# Altium integrated library Molex Modular Jack Right Angle.IntLib: 395 symbols (part 6 of 9)
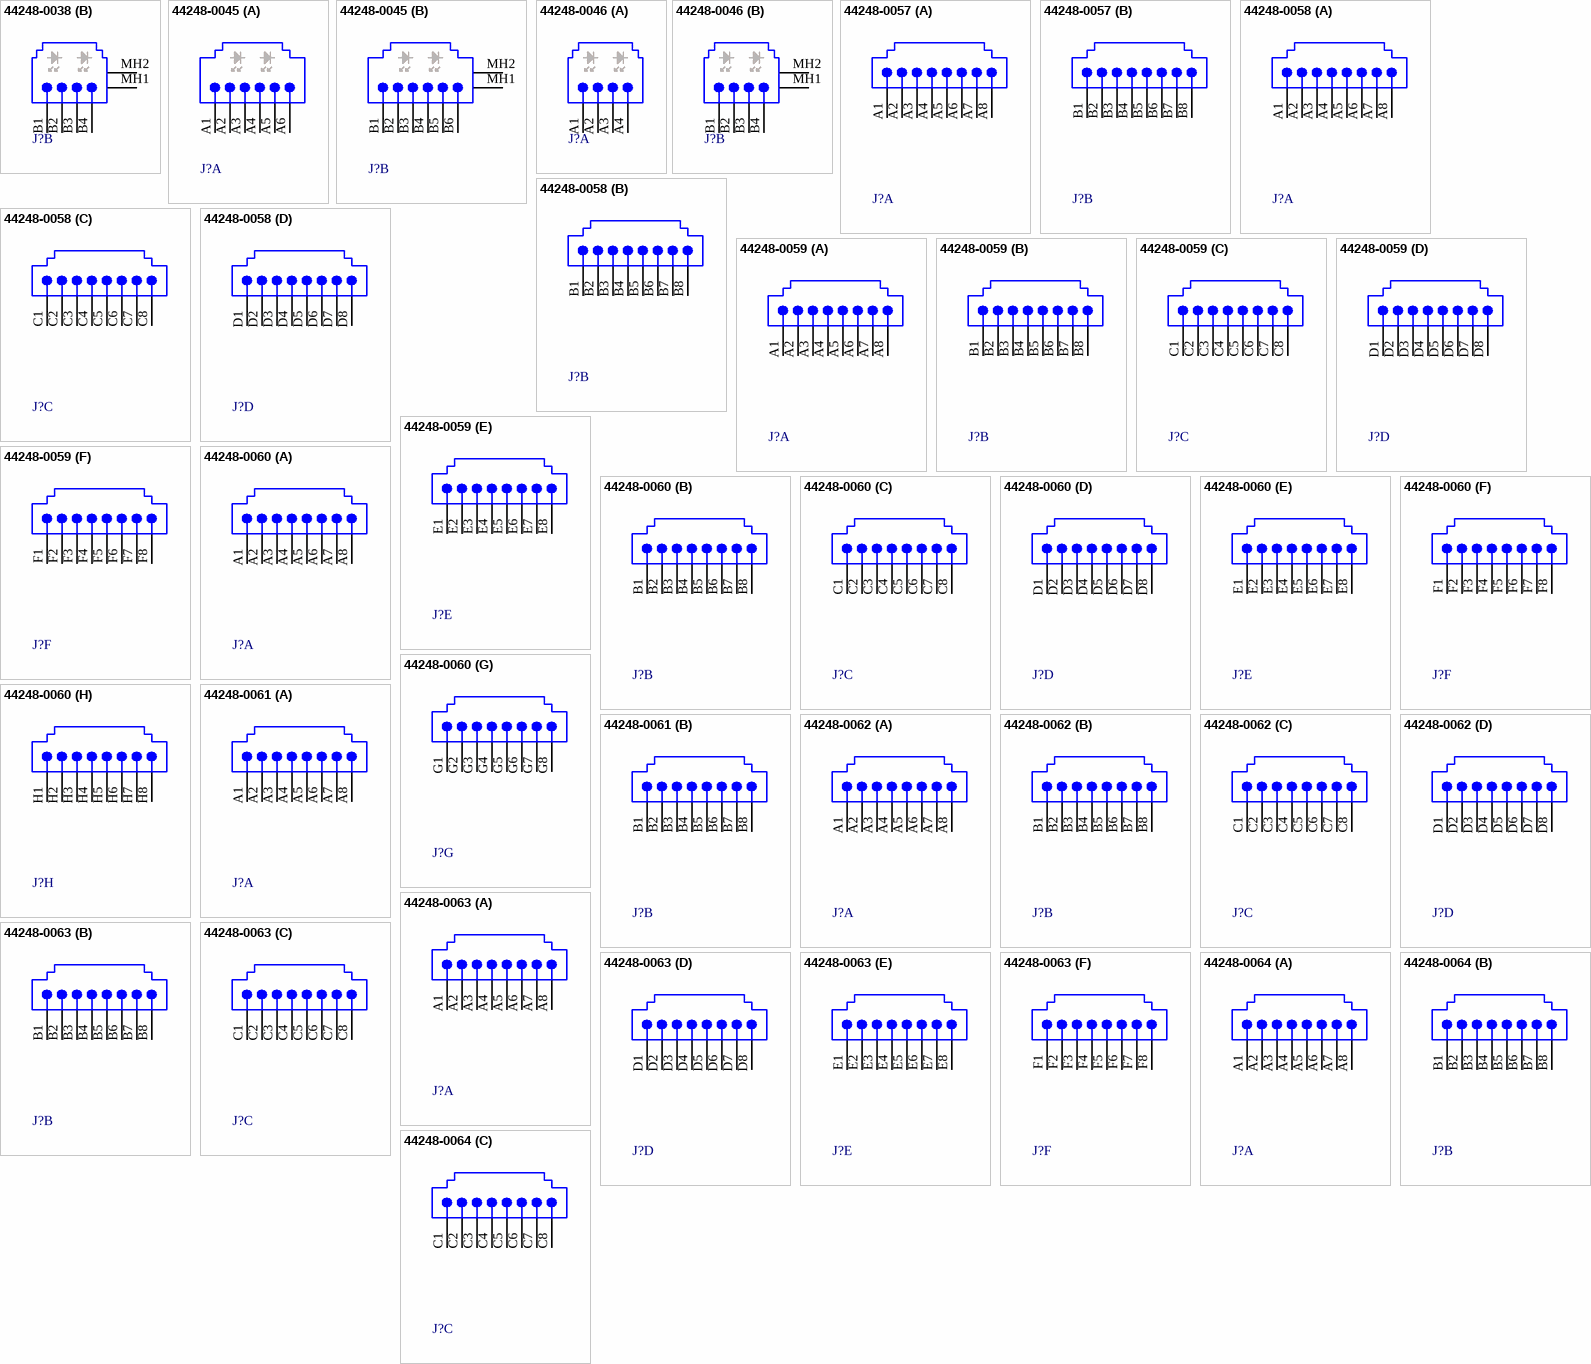
[diagram p29: symbols 44248-0038 to 44248-0064]

## 44248-0061
designator J?
Ganged, Right Angle, Low Profile Inverted, Press-Fit, Unshielded, Modular Jack; Ports: 2; Positions/Loaded: All Ports - 8/8; PerformanceCategory: 5; PCB_Mounting: Thru-Hole; DrillSize: Nominal, Rounded to nearest 0.05mm; PCB_Layout: Complies with Manufacturer's Recommendation.; Published: 25-Jun-2002; DatasheetDocument: 28-Nov-2001; PackageDocument: 28-Nov-2001; PackageReference: 44248-0061; Publisher: Altium Limited; ComponentLink1Description: Manufacturer Link; ComponentLink1URL: http://www.molex.com/; ComponentLink2Description: Datasheet; ComponentLink2URL: http://www.molex.com/cmc_upload/common_files/1212003_cmx44248a.pdf
footprint 44248-0061 (Connector; PCB Jack, Thru-Hole; 2-Port, 8 Positions, 8 Loaded; Unshielded without Lightpipes; Right Angle)
signal-integrity model Modular Jack
part A pins: A1, A2, A3, A4, A5, A6, A7, A8
part B pins: B1, B2, B3, B4, B5, B6, B7, B8

## 44248-0062
designator J?
Ganged, Right Angle, Low Profile Inverted, Press-Fit, Unshielded, Modular Jack; Ports: 4; Positions/Loaded: All Ports - 8/8; PerformanceCategory: 5; PCB_Mounting: Thru-Hole; DrillSize: Nominal, Rounded to nearest 0.05mm; PCB_Layout: Complies with Manufacturer's Recommendation.; Published: 25-Jun-2002; DatasheetDocument: 28-Nov-2001; PackageDocument: 28-Nov-2001; PackageReference: 44248-0062; Publisher: Altium Limited; ComponentLink1Description: Manufacturer Link; ComponentLink1URL: http://www.molex.com/; ComponentLink2Description: Datasheet; ComponentLink2URL: http://www.molex.com/cmc_upload/common_files/1212003_cmx44248a.pdf
footprint 44248-0062 (Connector; PCB Jack, Thru-Hole; 4-Port, 8 Positions, 8 Loaded; Unshielded without Lightpipes; Right Angle)
signal-integrity model Modular Jack
part A pins: A1, A2, A3, A4, A5, A6, A7, A8
part B pins: B1, B2, B3, B4, B5, B6, B7, B8
part C pins: C1, C2, C3, C4, C5, C6, C7, C8
part D pins: D1, D2, D3, D4, D5, D6, D7, D8

## 44248-0063
designator J?
Ganged, Right Angle, Low Profile Inverted, Press-Fit, Unshielded, Modular Jack; Ports: 6; Positions/Loaded: All Ports - 8/8; PerformanceCategory: 5; PCB_Mounting: Thru-Hole; DrillSize: Nominal, Rounded to nearest 0.05mm; PCB_Layout: Complies with Manufacturer's Recommendation.; Published: 25-Jun-2002; DatasheetDocument: 28-Nov-2001; PackageDocument: 28-Nov-2001; PackageReference: 44248-0063; Publisher: Altium Limited; ComponentLink1Description: Manufacturer Link; ComponentLink1URL: http://www.molex.com/; ComponentLink2Description: Datasheet; ComponentLink2URL: http://www.molex.com/cmc_upload/common_files/1212003_cmx44248a.pdf
footprint 44248-0063 (Connector; PCB Jack, Thru-Hole; 6-Port, 8 Positions, 8 Loaded; Unshielded without Lightpipes; Right Angle)
signal-integrity model Modular Jack
part A pins: A1, A2, A3, A4, A5, A6, A7, A8
part B pins: B1, B2, B3, B4, B5, B6, B7, B8
part C pins: C1, C2, C3, C4, C5, C6, C7, C8
part D pins: D1, D2, D3, D4, D5, D6, D7, D8
part E pins: E1, E2, E3, E4, E5, E6, E7, E8
part F pins: F1, F2, F3, F4, F5, F6, F7, F8

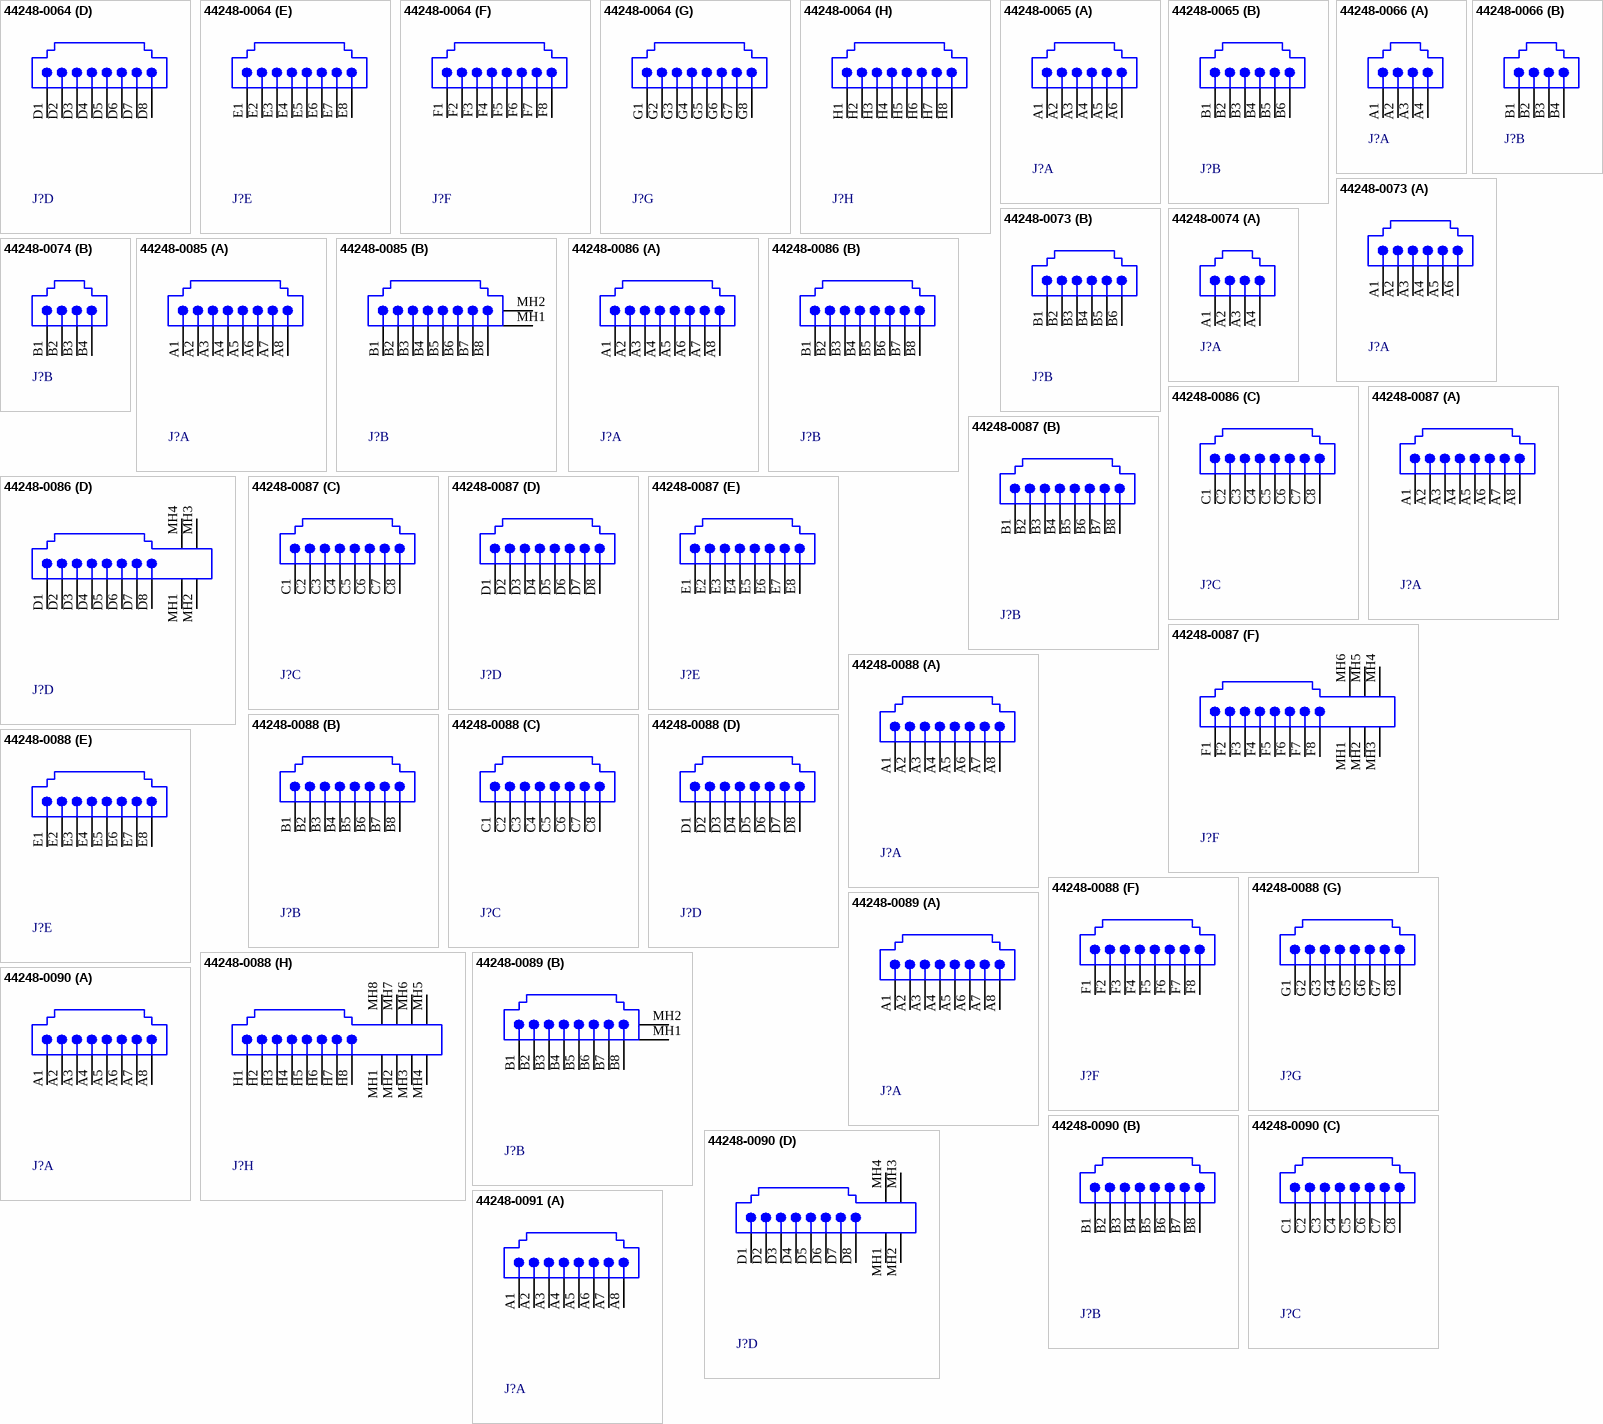
[diagram p16: symbols 44248-0064 to 44248-0091]

## 44248-0064
designator J?
Ganged, Right Angle, Low Profile Inverted, Press-Fit, Center Peg, Unshielded, Modular Jack; Ports: 8; Positions/Loaded: All Ports - 8/8; PerformanceCategory: 5; PCB_Mounting: Thru-Hole; DrillSize: Nominal, Rounded to nearest 0.05mm; PCB_Layout: Complies with Manufacturer's Recommendation.; Published: 25-Jun-2002; DatasheetDocument: 28-Nov-2001; PackageDocument: 28-Nov-2001; PackageReference: 44248-0064; Publisher: Altium Limited; ComponentLink1Description: Manufacturer Link; ComponentLink1URL: http://www.molex.com/; ComponentLink2Description: Datasheet; ComponentLink2URL: http://www.molex.com/cmc_upload/common_files/1212003_cmx44248a.pdf
footprint 44248-0064 (Connector; PCB Jack, Thru-Hole; 8-Port, 8 Positions, 8 Loaded; Unshielded without Lightpipes; Right Angle)
signal-integrity model Modular Jack
part A pins: A1, A2, A3, A4, A5, A6, A7, A8
part B pins: B1, B2, B3, B4, B5, B6, B7, B8
part C pins: C1, C2, C3, C4, C5, C6, C7, C8
part D pins: D1, D2, D3, D4, D5, D6, D7, D8
part E pins: E1, E2, E3, E4, E5, E6, E7, E8
part F pins: F1, F2, F3, F4, F5, F6, F7, F8
part G pins: G1, G2, G3, G4, G5, G6, G7, G8
part H pins: H1, H2, H3, H4, H5, H6, H7, H8

## 44248-0065
designator J?
Ganged, Right Angle, Low Profile Inverted, Snap-Fit, Unshielded, Modular Jack; Ports: 2; Positions/Loaded: All Ports - 6/6; PerformanceCategory: 5; PCB_Mounting: Thru-Hole; DrillSize: Nominal, Rounded to nearest 0.05mm; PCB_Layout: Complies with Manufacturer's Recommendation.; Published: 25-Jun-2002; DatasheetDocument: 28-Nov-2001; PackageDocument: 28-Nov-2001; PackageReference: 44248-0065; Publisher: Altium Limited; ComponentLink1Description: Manufacturer Link; ComponentLink1URL: http://www.molex.com/; ComponentLink2Description: Datasheet; ComponentLink2URL: http://www.molex.com/cmc_upload/common_files/1212003_cmx44248a.pdf
footprint 44248-0065 (Connector; PCB Jack, Thru-Hole; 2-Port, 6 Positions, 6 Loaded; Unshielded without Lightpipes; Right Angle)
signal-integrity model Modular Jack
part A pins: A1, A2, A3, A4, A5, A6
part B pins: B1, B2, B3, B4, B5, B6

## 44248-0066
designator J?
Ganged, Right Angle, Low Profile Inverted, Snap-Fit, Unshielded, Modular Jack; Ports: 2; Positions/Loaded: All Ports - 6/4; PerformanceCategory: 5; PCB_Mounting: Thru-Hole; DrillSize: Nominal, Rounded to nearest 0.05mm; PCB_Layout: Complies with Manufacturer's Recommendation.; Published: 25-Jun-2002; DatasheetDocument: 28-Nov-2001; PackageDocument: 28-Nov-2001; PackageReference: 44248-0066; Publisher: Altium Limited; ComponentLink1Description: Manufacturer Link; ComponentLink1URL: http://www.molex.com/; ComponentLink2Description: Datasheet; ComponentLink2URL: http://www.molex.com/cmc_upload/common_files/1212003_cmx44248a.pdf
footprint 44248-0066 (Connector; PCB Jack, Thru-Hole; 2-Port, 6 Positions, 4 Loaded; Unshielded without Lightpipes; Right Angle)
signal-integrity model Modular Jack
part A pins: A1, A2, A3, A4
part B pins: B1, B2, B3, B4

## 44248-0073
designator J?
Ganged, Right Angle, Low Profile Inverted, Press-Fit, Unshielded, Modular Jack; Ports: 2; Positions/Loaded: All Ports - 6/6; PerformanceCategory: 5; PCB_Mounting: Thru-Hole; DrillSize: Nominal, Rounded to nearest 0.05mm; PCB_Layout: Complies with Manufacturer's Recommendation.; Published: 25-Jun-2002; DatasheetDocument: 28-Nov-2001; PackageDocument: 28-Nov-2001; PackageReference: 44248-0073; Publisher: Altium Limited; ComponentLink1Description: Manufacturer Link; ComponentLink1URL: http://www.molex.com/; ComponentLink2Description: Datasheet; ComponentLink2URL: http://www.molex.com/cmc_upload/common_files/1212003_cmx44248a.pdf
footprint 44248-0073 (Connector; PCB Jack, Thru-Hole; 2-Port, 6 Positions, 6 Loaded; Unshielded without Lightpipes; Right Angle)
signal-integrity model Modular Jack
part A pins: A1, A2, A3, A4, A5, A6
part B pins: B1, B2, B3, B4, B5, B6

## 44248-0074
designator J?
Ganged, Right Angle, Low Profile Inverted, Press-Fit, Unshielded, Modular Jack; Ports: 2; Positions/Loaded: All Ports - 6/4; PerformanceCategory: 5; PCB_Mounting: Thru-Hole; DrillSize: Nominal, Rounded to nearest 0.05mm; PCB_Layout: Complies with Manufacturer's Recommendation.; Published: 25-Jun-2002; DatasheetDocument: 28-Nov-2001; PackageDocument: 28-Nov-2001; PackageReference: 44248-0074; Publisher: Altium Limited; ComponentLink1Description: Manufacturer Link; ComponentLink1URL: http://www.molex.com/; ComponentLink2Description: Datasheet; ComponentLink2URL: http://www.molex.com/cmc_upload/common_files/1212003_cmx44248a.pdf
footprint 44248-0074 (Connector; PCB Jack, Thru-Hole; 2-Port, 6 Positions, 4 Loaded; Unshielded without Lightpipes; Right Angle)
signal-integrity model Modular Jack
part A pins: A1, A2, A3, A4
part B pins: B1, B2, B3, B4

## 44248-0085
designator J?
Ganged, Right Angle, Low Profile Inverted, Snap-Fit, Shielded, Modular Jack; Ports: 2; Positions/Loaded: All Ports - 8/8; PerformanceCategory: 5; PCB_Mounting: Thru-Hole; DrillSize: Nominal, Rounded to nearest 0.05mm; PCB_Layout: Complies with Manufacturer's Recommendation.; Published: 25-Jun-2002; DatasheetDocument: 28-Nov-2001; PackageDocument: 28-Nov-2001; PackageReference: 44248-0085; Publisher: Altium Limited; ComponentLink1Description: Manufacturer Link; ComponentLink1URL: http://www.molex.com/; ComponentLink2Description: Datasheet; ComponentLink2URL: http://www.molex.com/cmc_upload/common_files/1212003_cmx44248a.pdf
footprint 44248-0085 (Connector; PCB Jack, Thru-Hole; 2-Port, 8 Positions, 8 Loaded; Shielded without Lightpipes; Right Angle)
signal-integrity model Modular Jack
part A pins: A1, A2, A3, A4, A5, A6, A7, A8
part B pins: B1, B2, B3, B4, B5, B6, B7, B8, MH1 Shield, MH2 Shield

## 44248-0086
designator J?
Ganged, Right Angle, Low Profile Inverted, Snap-Fit, Shielded, Modular Jack; Ports: 4; Positions/Loaded: All Ports - 8/8; PerformanceCategory: 5; PCB_Mounting: Thru-Hole; DrillSize: Nominal, Rounded to nearest 0.05mm; PCB_Layout: Complies with Manufacturer's Recommendation.; Published: 25-Jun-2002; DatasheetDocument: 28-Nov-2001; PackageDocument: 28-Nov-2001; PackageReference: 44248-0086; Publisher: Altium Limited; ComponentLink1Description: Manufacturer Link; ComponentLink1URL: http://www.molex.com/; ComponentLink2Description: Datasheet; ComponentLink2URL: http://www.molex.com/cmc_upload/common_files/1212003_cmx44248a.pdf
footprint 44248-0086 (Connector; PCB Jack, Thru-Hole; 4-Port, 8 Positions, 8 Loaded; Shielded without Lightpipes; Right Angle)
signal-integrity model Modular Jack
part A pins: A1, A2, A3, A4, A5, A6, A7, A8
part B pins: B1, B2, B3, B4, B5, B6, B7, B8
part C pins: C1, C2, C3, C4, C5, C6, C7, C8
part D pins: D1, D2, D3, D4, D5, D6, D7, D8, MH1 Shield, MH2 Shield, MH3 Shield, MH4 Shield

## 44248-0087
designator J?
Ganged, Right Angle, Low Profile Inverted, Snap-Fit, Shielded, Modular Jack; Ports: 6; Positions/Loaded: All Ports - 8/8; PerformanceCategory: 5; PCB_Mounting: Thru-Hole; DrillSize: Nominal, Rounded to nearest 0.05mm; PCB_Layout: Complies with Manufacturer's Recommendation.; Published: 25-Jun-2002; DatasheetDocument: 28-Nov-2001; PackageDocument: 28-Nov-2001; PackageReference: 44248-0087; Publisher: Altium Limited; ComponentLink1Description: Manufacturer Link; ComponentLink1URL: http://www.molex.com/; ComponentLink2Description: Datasheet; ComponentLink2URL: http://www.molex.com/cmc_upload/common_files/1212003_cmx44248a.pdf
footprint 44248-0087 (Connector; PCB Jack, Thru-Hole; 6-Port, 8 Positions, 8 Loaded; Shielded without Lightpipes; Right Angle)
signal-integrity model Modular Jack
part A pins: A1, A2, A3, A4, A5, A6, A7, A8
part B pins: B1, B2, B3, B4, B5, B6, B7, B8
part C pins: C1, C2, C3, C4, C5, C6, C7, C8
part D pins: D1, D2, D3, D4, D5, D6, D7, D8
part E pins: E1, E2, E3, E4, E5, E6, E7, E8
part F pins: F1, F2, F3, F4, F5, F6, F7, F8, MH1 Shield, MH2 Shield, MH3 Shield, MH4 Shield, MH5 Shield, MH6 Shield

## 44248-0088
designator J?
Ganged, Right Angle, Low Profile Inverted, Snap-Fit, Center Peg, Shielded, Modular Jack; Ports: 8; Positions/Loaded: All Ports - 8/8; PerformanceCategory: 5; PCB_Mounting: Thru-Hole; DrillSize: Nominal, Rounded to nearest 0.05mm; PCB_Layout: Complies with Manufacturer's Recommendation.; Published: 25-Jun-2002; DatasheetDocument: 28-Nov-2001; PackageDocument: 28-Nov-2001; PackageReference: 44248-0088; Publisher: Altium Limited; ComponentLink1Description: Manufacturer Link; ComponentLink1URL: http://www.molex.com/; ComponentLink2Description: Datasheet; ComponentLink2URL: http://www.molex.com/cmc_upload/common_files/1212003_cmx44248a.pdf
footprint 44248-0088 (Connector; PCB Jack, Thru-Hole; 8-Port, 8 Positions, 8 Loaded; Shielded without Lightpipes; Right Angle)
signal-integrity model Modular Jack
part A pins: A1, A2, A3, A4, A5, A6, A7, A8
part B pins: B1, B2, B3, B4, B5, B6, B7, B8
part C pins: C1, C2, C3, C4, C5, C6, C7, C8
part D pins: D1, D2, D3, D4, D5, D6, D7, D8
part E pins: E1, E2, E3, E4, E5, E6, E7, E8
part F pins: F1, F2, F3, F4, F5, F6, F7, F8
part G pins: G1, G2, G3, G4, G5, G6, G7, G8
part H pins: H1, H2, H3, H4, H5, H6, H7, H8, MH1 Shield, MH2 Shield, MH3 Shield, MH4 Shield, MH5 Shield, MH6 Shield, MH7 Shield, MH8 Shield

## 44248-0089
designator J?
Ganged, Right Angle, Low Profile Inverted, Press-Fit, Shielded, Modular Jack; Ports: 2; Positions/Loaded: All Ports - 8/8; PerformanceCategory: 5; PCB_Mounting: Thru-Hole; DrillSize: Nominal, Rounded to nearest 0.05mm; PCB_Layout: Complies with Manufacturer's Recommendation.; Published: 25-Jun-2002; DatasheetDocument: 28-Nov-2001; PackageDocument: 28-Nov-2001; PackageReference: 44248-0089; Publisher: Altium Limited; ComponentLink1Description: Manufacturer Link; ComponentLink1URL: http://www.molex.com/; ComponentLink2Description: Datasheet; ComponentLink2URL: http://www.molex.com/cmc_upload/common_files/1212003_cmx44248a.pdf
footprint 44248-0089 (Connector; PCB Jack, Thru-Hole; 2-Port, 8 Positions, 8 Loaded; Shielded without Lightpipes; Right Angle)
signal-integrity model Modular Jack
part A pins: A1, A2, A3, A4, A5, A6, A7, A8
part B pins: B1, B2, B3, B4, B5, B6, B7, B8, MH1 Shield, MH2 Shield

## 44248-0090
designator J?
Ganged, Right Angle, Low Profile Inverted, Press-Fit, Shielded, Modular Jack; Ports: 4; Positions/Loaded: All Ports - 8/8; PerformanceCategory: 5; PCB_Mounting: Thru-Hole; DrillSize: Nominal, Rounded to nearest 0.05mm; PCB_Layout: Complies with Manufacturer's Recommendation.; Published: 25-Jun-2002; DatasheetDocument: 28-Nov-2001; PackageDocument: 28-Nov-2001; PackageReference: 44248-0090; Publisher: Altium Limited; ComponentLink1Description: Manufacturer Link; ComponentLink1URL: http://www.molex.com/; ComponentLink2Description: Datasheet; ComponentLink2URL: http://www.molex.com/cmc_upload/common_files/1212003_cmx44248a.pdf
footprint 44248-0090 (Connector; PCB Jack, Thru-Hole; 4-Port, 8 Positions, 8 Loaded; Shielded without Lightpipes; Right Angle)
signal-integrity model Modular Jack
part A pins: A1, A2, A3, A4, A5, A6, A7, A8
part B pins: B1, B2, B3, B4, B5, B6, B7, B8
part C pins: C1, C2, C3, C4, C5, C6, C7, C8
part D pins: D1, D2, D3, D4, D5, D6, D7, D8, MH1 Shield, MH2 Shield, MH3 Shield, MH4 Shield

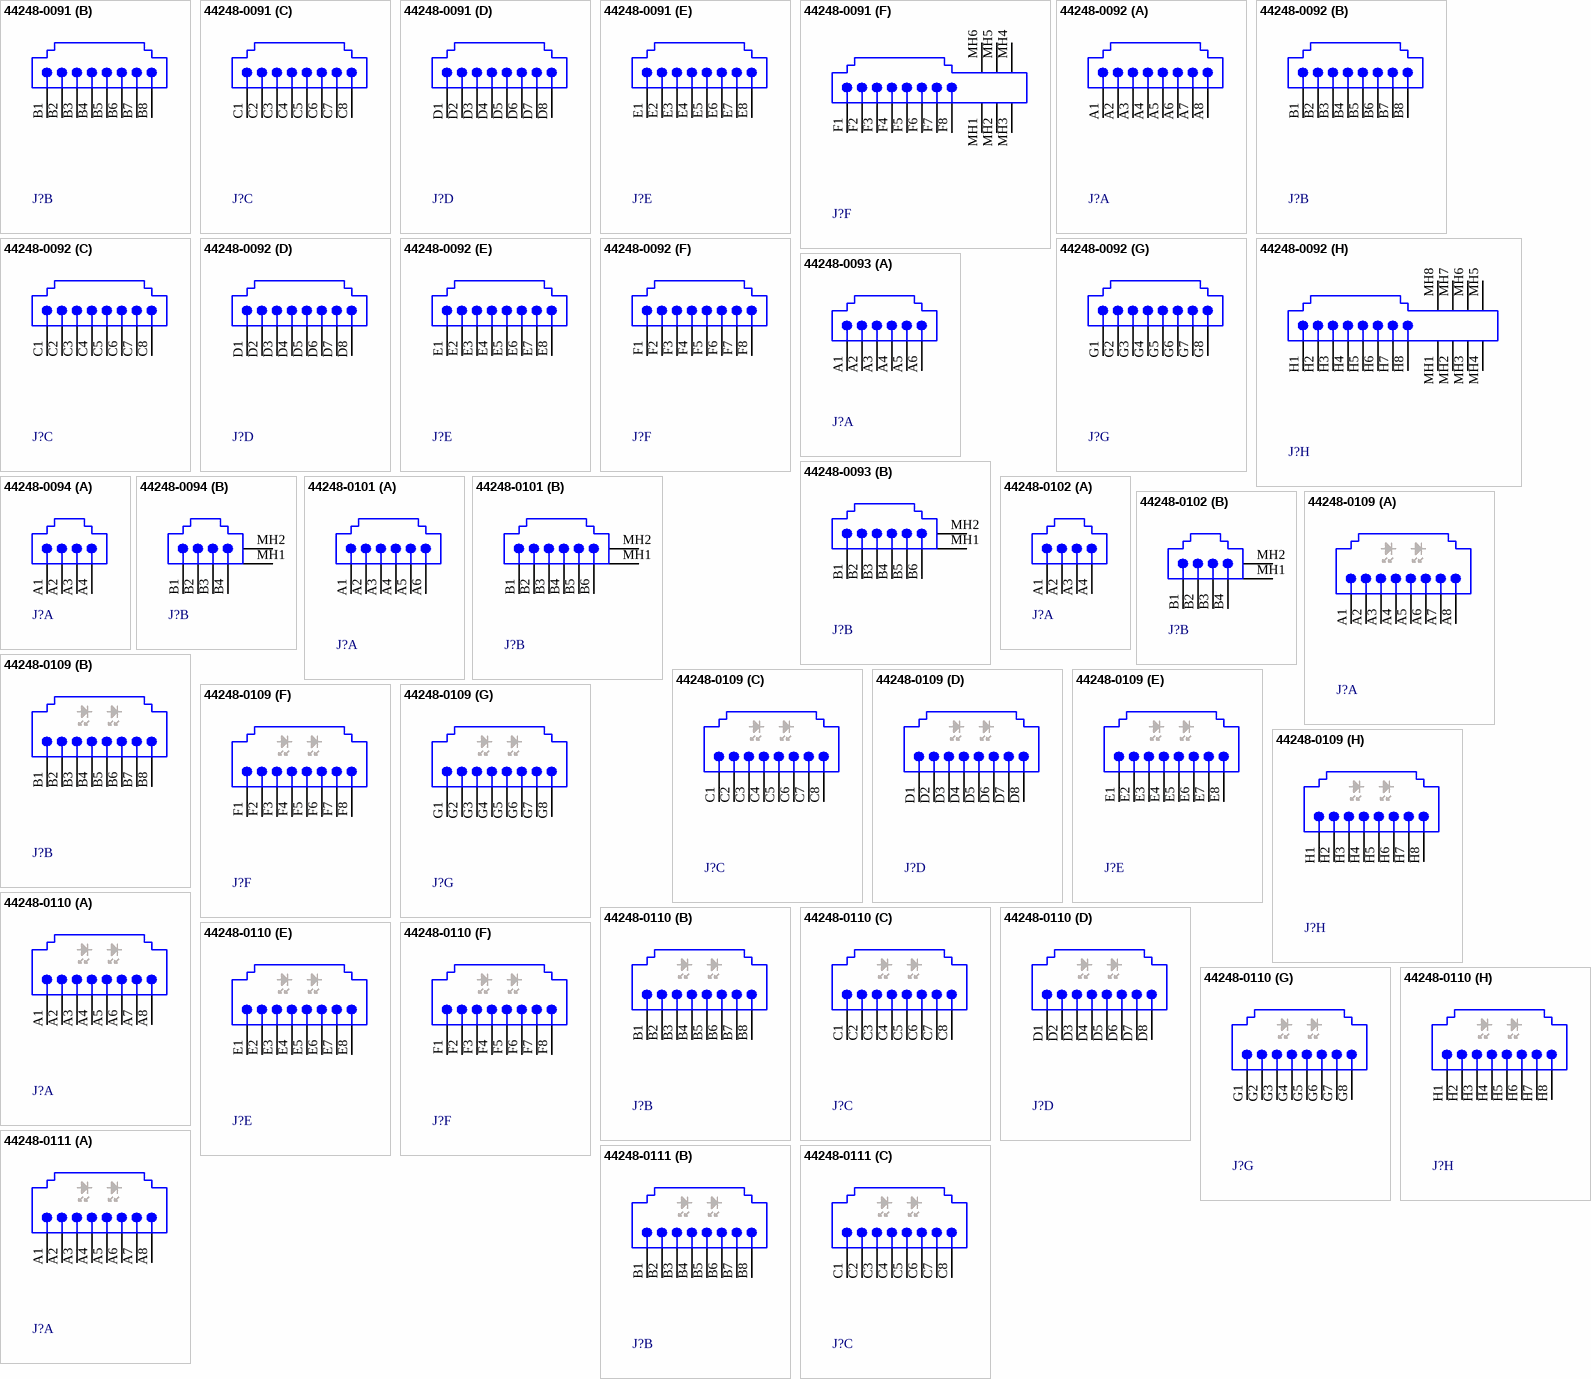
[diagram p17: symbols 44248-0091 to 44248-0111]

## 44248-0091
designator J?
Ganged, Right Angle, Low Profile Inverted, Press-Fit, Shielded, Modular Jack; Ports: 6; Positions/Loaded: All Ports - 8/8; PerformanceCategory: 5; PCB_Mounting: Thru-Hole; DrillSize: Nominal, Rounded to nearest 0.05mm; PCB_Layout: Complies with Manufacturer's Recommendation.; Published: 25-Jun-2002; DatasheetDocument: 28-Nov-2001; PackageDocument: 28-Nov-2001; PackageReference: 44248-0091; Publisher: Altium Limited; ComponentLink1Description: Manufacturer Link; ComponentLink1URL: http://www.molex.com/; ComponentLink2Description: Datasheet; ComponentLink2URL: http://www.molex.com/cmc_upload/common_files/1212003_cmx44248a.pdf
footprint 44248-0091 (Connector; PCB Jack, Thru-Hole; 6-Port, 8 Positions, 8 Loaded; Shielded without Lightpipes; Right Angle)
signal-integrity model Modular Jack
part A pins: A1, A2, A3, A4, A5, A6, A7, A8
part B pins: B1, B2, B3, B4, B5, B6, B7, B8
part C pins: C1, C2, C3, C4, C5, C6, C7, C8
part D pins: D1, D2, D3, D4, D5, D6, D7, D8
part E pins: E1, E2, E3, E4, E5, E6, E7, E8
part F pins: F1, F2, F3, F4, F5, F6, F7, F8, MH1 Shield, MH2 Shield, MH3 Shield, MH4 Shield, MH5 Shield, MH6 Shield

## 44248-0092
designator J?
Ganged, Right Angle, Low Profile Inverted, Press-Fit, Center Peg, Shielded, Modular Jack; Ports: 8; Positions/Loaded: All Ports - 8/8; PerformanceCategory: 5; PCB_Mounting: Thru-Hole; DrillSize: Nominal, Rounded to nearest 0.05mm; PCB_Layout: Complies with Manufacturer's Recommendation.; Published: 25-Jun-2002; DatasheetDocument: 28-Nov-2001; PackageDocument: 28-Nov-2001; PackageReference: 44248-0092; Publisher: Altium Limited; ComponentLink1Description: Manufacturer Link; ComponentLink1URL: http://www.molex.com/; ComponentLink2Description: Datasheet; ComponentLink2URL: http://www.molex.com/cmc_upload/common_files/1212003_cmx44248a.pdf
footprint 44248-0092 (Connector; PCB Jack, Thru-Hole; 8-Port, 8 Positions, 8 Loaded; Shielded without Lightpipes; Right Angle)
signal-integrity model Modular Jack
part A pins: A1, A2, A3, A4, A5, A6, A7, A8
part B pins: B1, B2, B3, B4, B5, B6, B7, B8
part C pins: C1, C2, C3, C4, C5, C6, C7, C8
part D pins: D1, D2, D3, D4, D5, D6, D7, D8
part E pins: E1, E2, E3, E4, E5, E6, E7, E8
part F pins: F1, F2, F3, F4, F5, F6, F7, F8
part G pins: G1, G2, G3, G4, G5, G6, G7, G8
part H pins: H1, H2, H3, H4, H5, H6, H7, H8, MH1 Shield, MH2 Shield, MH3 Shield, MH4 Shield, MH5 Shield, MH6 Shield, MH7 Shield, MH8 Shield

## 44248-0093
designator J?
Ganged, Right Angle, Low Profile Inverted, Snap-Fit, Shielded, Modular Jack; Ports: 2; Positions/Loaded: All Ports - 6/6; PerformanceCategory: 5; PCB_Mounting: Thru-Hole; DrillSize: Nominal, Rounded to nearest 0.05mm; PCB_Layout: Complies with Manufacturer's Recommendation.; Published: 25-Jun-2002; DatasheetDocument: 28-Nov-2001; PackageDocument: 28-Nov-2001; PackageReference: 44248-0093; Publisher: Altium Limited; ComponentLink1Description: Manufacturer Link; ComponentLink1URL: http://www.molex.com/; ComponentLink2Description: Datasheet; ComponentLink2URL: http://www.molex.com/cmc_upload/common_files/1212003_cmx44248a.pdf
footprint 44248-0093 (Connector; PCB Jack, Thru-Hole; 2-Port, 6 Positions, 6 Loaded; Shielded without Lightpipes; Right Angle)
signal-integrity model Modular Jack
part A pins: A1, A2, A3, A4, A5, A6
part B pins: B1, B2, B3, B4, B5, B6, MH1 Shield, MH2 Shield

## 44248-0094
designator J?
Ganged, Right Angle, Low Profile Inverted, Snap-Fit, Shielded, Modular Jack; Ports: 2; Positions/Loaded: All Ports - 6/4; PerformanceCategory: 5; PCB_Mounting: Thru-Hole; DrillSize: Nominal, Rounded to nearest 0.05mm; PCB_Layout: Complies with Manufacturer's Recommendation.; Published: 25-Jun-2002; DatasheetDocument: 28-Nov-2001; PackageDocument: 28-Nov-2001; PackageReference: 44248-0094; Publisher: Altium Limited; ComponentLink1Description: Manufacturer Link; ComponentLink1URL: http://www.molex.com/; ComponentLink2Description: Datasheet; ComponentLink2URL: http://www.molex.com/cmc_upload/common_files/1212003_cmx44248a.pdf
footprint 44248-0094 (Connector; PCB Jack, Thru-Hole; 2-Port, 6 Positions, 4 Loaded; Shielded without Lightpipes; Right Angle)
signal-integrity model Modular Jack
part A pins: A1, A2, A3, A4
part B pins: B1, B2, B3, B4, MH1 Shield, MH2 Shield

## 44248-0101
designator J?
Ganged, Right Angle, Low Profile Inverted, Press-Fit, Shielded, Modular Jack; Ports: 2; Positions/Loaded: All Ports - 6/6; PerformanceCategory: 5; PCB_Mounting: Thru-Hole; DrillSize: Nominal, Rounded to nearest 0.05mm; PCB_Layout: Complies with Manufacturer's Recommendation.; Published: 25-Jun-2002; DatasheetDocument: 28-Nov-2001; PackageDocument: 28-Nov-2001; PackageReference: 44248-0101; Publisher: Altium Limited; ComponentLink1Description: Manufacturer Link; ComponentLink1URL: http://www.molex.com/; ComponentLink2Description: Datasheet; ComponentLink2URL: http://www.molex.com/cmc_upload/common_files/1212003_cmx44248a.pdf
footprint 44248-0101 (Connector; PCB Jack, Thru-Hole; 2-Port, 6 Positions, 6 Loaded; Shielded without Lightpipes; Right Angle)
signal-integrity model Modular Jack
part A pins: A1, A2, A3, A4, A5, A6
part B pins: B1, B2, B3, B4, B5, B6, MH1 Shield, MH2 Shield

## 44248-0102
designator J?
Ganged, Right Angle, Low Profile Inverted, Press-Fit, Shielded, Modular Jack; Ports: 2; Positions/Loaded: All Ports - 6/4; PerformanceCategory: 5; PCB_Mounting: Thru-Hole; DrillSize: Nominal, Rounded to nearest 0.05mm; PCB_Layout: Complies with Manufacturer's Recommendation.; Published: 25-Jun-2002; DatasheetDocument: 28-Nov-2001; PackageDocument: 28-Nov-2001; PackageReference: 44248-0102; Publisher: Altium Limited; ComponentLink1Description: Manufacturer Link; ComponentLink1URL: http://www.molex.com/; ComponentLink2Description: Datasheet; ComponentLink2URL: http://www.molex.com/cmc_upload/common_files/1212003_cmx44248a.pdf
footprint 44248-0102 (Connector; PCB Jack, Thru-Hole; 2-Port, 6 Positions, 4 Loaded; Shielded without Lightpipes; Right Angle)
signal-integrity model Modular Jack
part A pins: A1, A2, A3, A4
part B pins: B1, B2, B3, B4, MH1 Shield, MH2 Shield

## 44248-0109
designator J?
Ganged, Right Angle, Low Profile Inverted, Snap-Fit, Unshielded with Lightpipes Modular Jack; ManufacturerRecommends: LED Package type 0805 or 0603; Ports: 8; Positions/Loaded: All Ports - 8/8; PerformanceCategory: 5; PCB_Mounting: Thru-Hole; PCB_Layout: Shows Position of Manufacturer's Recommended SMT LED, Package Type 0805 shown on Mechanical Layer 1.; DrillSize: Nominal, Rounded to nearest 0.05mm; PCB_Layout: Complies with Manufacturer's Recommendation.; Published: 25-Jun-2002; DatasheetDocument: 12-Dec-2001; PackageDocument: 12-Dec-2001; PackageReference: 44248-0109; Publisher: Altium Limited; ComponentLink1Description: Manufacturer Link; ComponentLink1URL: http://www.molex.com/; ComponentLink2Description: Datasheet; ComponentLink2URL: http://www.molex.com/cmc_upload/common_files/1212003_cmx44248b.pdf
footprint 44248-0109 (Connector; PCB Jack, Thru-Hole; 8-Port, 8 Positions, 8 Loaded; Unshielded with Lightpipes; Right Angle)
signal-integrity model Modular Jack
part A pins: A1, A2, A3, A4, A5, A6, A7, A8
part B pins: B1, B2, B3, B4, B5, B6, B7, B8
part C pins: C1, C2, C3, C4, C5, C6, C7, C8
part D pins: D1, D2, D3, D4, D5, D6, D7, D8
part E pins: E1, E2, E3, E4, E5, E6, E7, E8
part F pins: F1, F2, F3, F4, F5, F6, F7, F8
part G pins: G1, G2, G3, G4, G5, G6, G7, G8
part H pins: H1, H2, H3, H4, H5, H6, H7, H8

## 44248-0110
designator J?
Ganged, Right Angle, Low Profile Inverted, Press-Fit, Unshielded with Lightpipes Modular Jack; ManufacturerRecommends: LED Package type 0805 or 0603; Ports: 8; Positions/Loaded: All Ports - 8/8; PerformanceCategory: 5; PCB_Mounting: Thru-Hole; PCB_Layout: Shows Position of Manufacturer's Recommended SMT LED, Package Type 0805 shown on Mechanical Layer 1.; DrillSize: Nominal, Rounded to nearest 0.05mm; PCB_Layout: Complies with Manufacturer's Recommendation.; Published: 25-Jun-2002; DatasheetDocument: 12-Dec-2001; PackageDocument: 12-Dec-2001; PackageReference: 44248-0110; Publisher: Altium Limited; ComponentLink1Description: Manufacturer Link; ComponentLink1URL: http://www.molex.com/; ComponentLink2Description: Datasheet; ComponentLink2URL: http://www.molex.com/cmc_upload/common_files/1212003_cmx44248b.pdf
footprint 44248-0110 (Connector; PCB Jack, Thru-Hole; 8-Port, 8 Positions, 8 Loaded; Unshielded with Lightpipes; Right Angle)
signal-integrity model Modular Jack
part A pins: A1, A2, A3, A4, A5, A6, A7, A8
part B pins: B1, B2, B3, B4, B5, B6, B7, B8
part C pins: C1, C2, C3, C4, C5, C6, C7, C8
part D pins: D1, D2, D3, D4, D5, D6, D7, D8
part E pins: E1, E2, E3, E4, E5, E6, E7, E8
part F pins: F1, F2, F3, F4, F5, F6, F7, F8
part G pins: G1, G2, G3, G4, G5, G6, G7, G8
part H pins: H1, H2, H3, H4, H5, H6, H7, H8

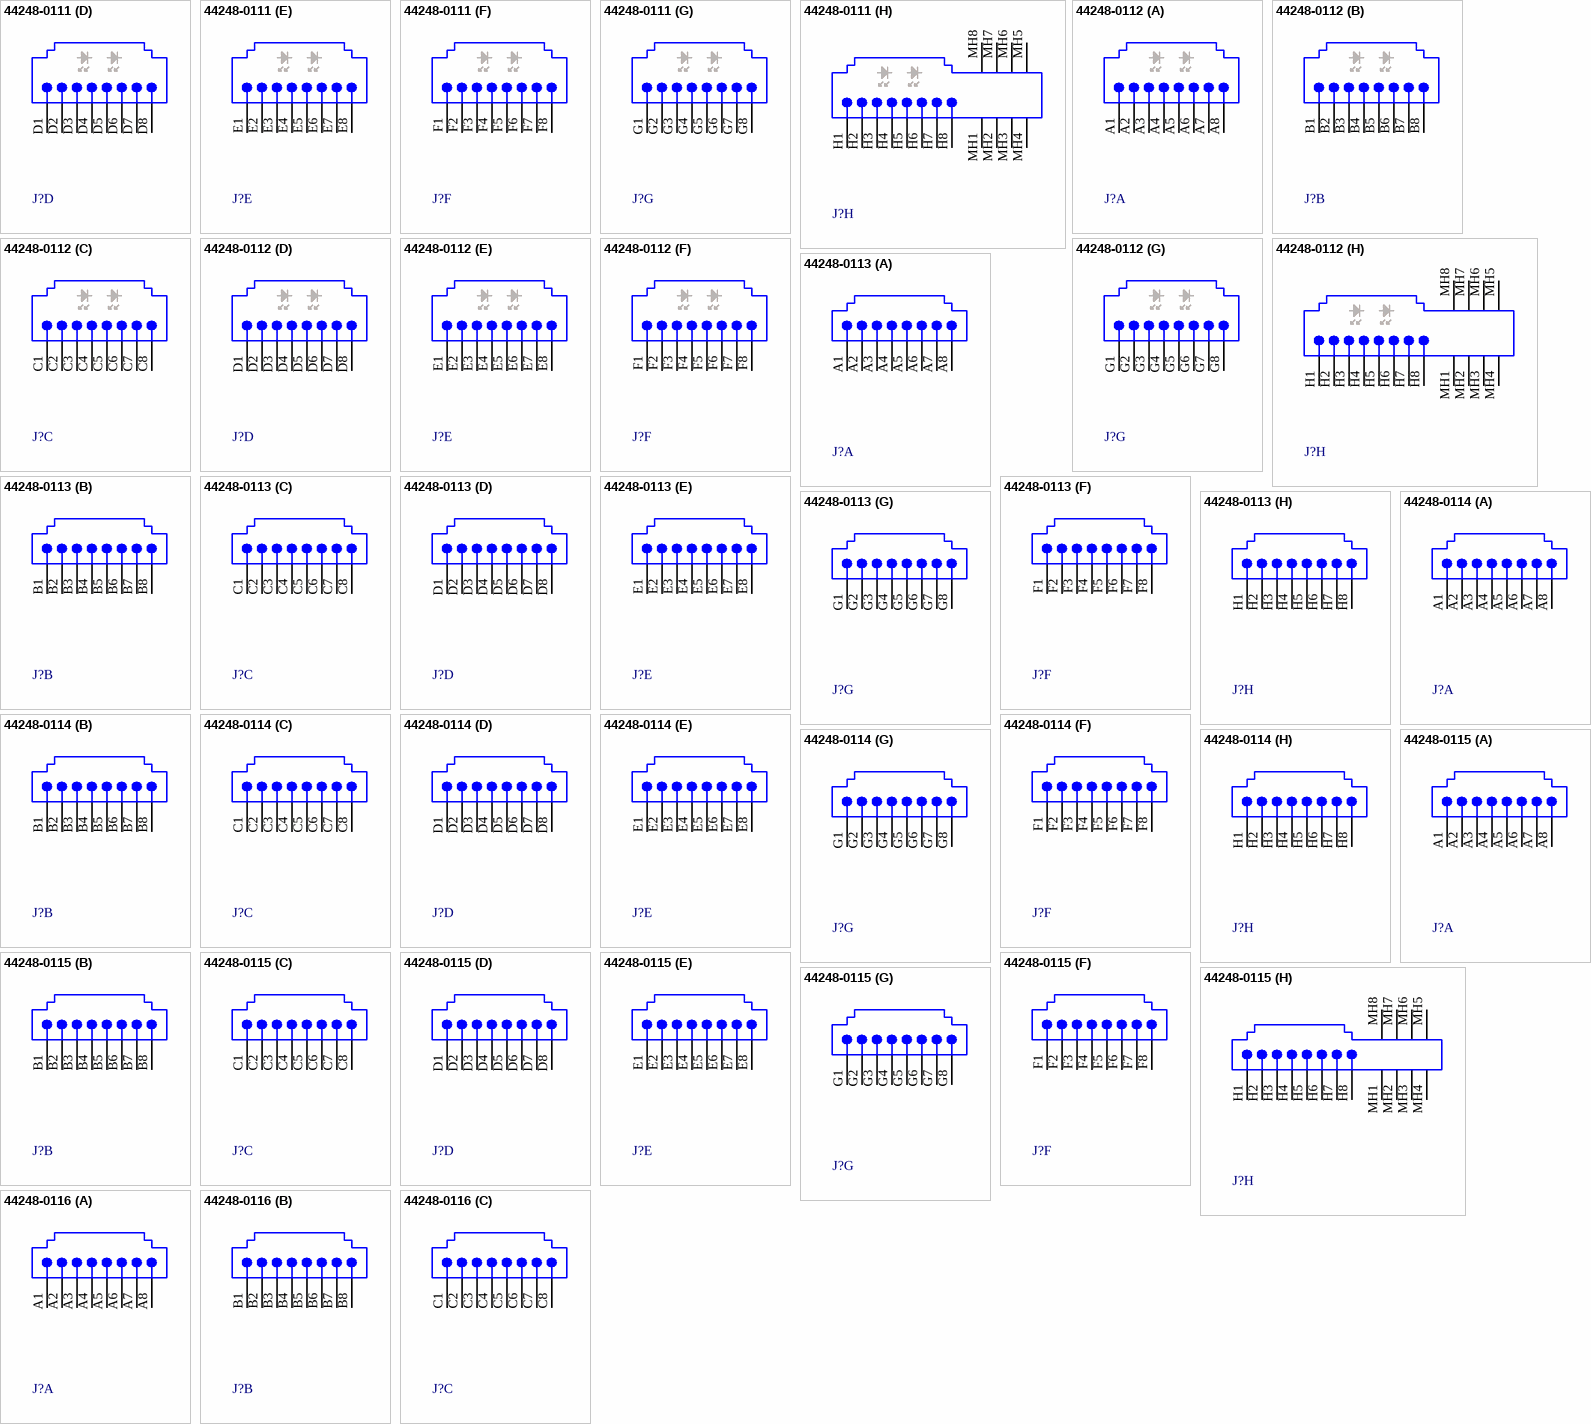
[diagram p18: symbols 44248-0111 to 44248-0116]

## 44248-0111
designator J?
Ganged, Right Angle, Low Profile Inverted, Snap-Fit, Shielded with Lightpipes Modular Jack; ManufacturerRecommends: LED Package type 0805 or 0603; Ports: 8; Positions/Loaded: All Ports - 8/8; PerformanceCategory: 5; PCB_Mounting: Thru-Hole; PCB_Layout: Shows Position of Manufacturer's Recommended SMT LED, Package Type 0805 shown on Mechanical Layer 1.; DrillSize: Nominal, Rounded to nearest 0.05mm; PCB_Layout: Complies with Manufacturer's Recommendation.; Published: 25-Jun-2002; DatasheetDocument: 12-Dec-2001; PackageDocument: 12-Dec-2001; PackageReference: 44248-0111; Publisher: Altium Limited; ComponentLink1Description: Manufacturer Link; ComponentLink1URL: http://www.molex.com/; ComponentLink2Description: Datasheet; ComponentLink2URL: http://www.molex.com/cmc_upload/common_files/1212003_cmx44248b.pdf
footprint 44248-0111 (Connector; PCB Jack, Thru-Hole; 8-Port, 8 Positions, 8 Loaded; Shielded with Lightpipes; Right Angle)
signal-integrity model Modular Jack
part A pins: A1, A2, A3, A4, A5, A6, A7, A8
part B pins: B1, B2, B3, B4, B5, B6, B7, B8
part C pins: C1, C2, C3, C4, C5, C6, C7, C8
part D pins: D1, D2, D3, D4, D5, D6, D7, D8
part E pins: E1, E2, E3, E4, E5, E6, E7, E8
part F pins: F1, F2, F3, F4, F5, F6, F7, F8
part G pins: G1, G2, G3, G4, G5, G6, G7, G8
part H pins: H1, H2, H3, H4, H5, H6, H7, H8, MH1 Shield, MH2 Shield, MH3 Shield, MH4 Shield, MH5 Shield, MH6 Shield, MH7 Shield, MH8 Shield

## 44248-0112
designator J?
Ganged, Right Angle, Low Profile Inverted, Press-Fit, Shielded with Lightpipes Modular Jack; ManufacturerRecommends: LED Package type 0805 or 0603; Ports: 8; Positions/Loaded: All Ports - 8/8; PerformanceCategory: 5; PCB_Mounting: Thru-Hole; PCB_Layout: Shows Position of Manufacturer's Recommended SMT LED, Package Type 0805 shown on Mechanical Layer 1.; DrillSize: Nominal, Rounded to nearest 0.05mm; PCB_Layout: Complies with Manufacturer's Recommendation.; Published: 25-Jun-2002; DatasheetDocument: 12-Dec-2001; PackageDocument: 12-Dec-2001; PackageReference: 44248-0112; Publisher: Altium Limited; ComponentLink1Description: Manufacturer Link; ComponentLink1URL: http://www.molex.com/; ComponentLink2Description: Datasheet; ComponentLink2URL: http://www.molex.com/cmc_upload/common_files/1212003_cmx44248b.pdf
footprint 44248-0112 (Connector; PCB Jack, Thru-Hole; 8-Port, 8 Positions, 8 Loaded; Shielded with Lightpipes; Right Angle)
signal-integrity model Modular Jack
part A pins: A1, A2, A3, A4, A5, A6, A7, A8
part B pins: B1, B2, B3, B4, B5, B6, B7, B8
part C pins: C1, C2, C3, C4, C5, C6, C7, C8
part D pins: D1, D2, D3, D4, D5, D6, D7, D8
part E pins: E1, E2, E3, E4, E5, E6, E7, E8
part F pins: F1, F2, F3, F4, F5, F6, F7, F8
part G pins: G1, G2, G3, G4, G5, G6, G7, G8
part H pins: H1, H2, H3, H4, H5, H6, H7, H8, MH1 Shield, MH2 Shield, MH3 Shield, MH4 Shield, MH5 Shield, MH6 Shield, MH7 Shield, MH8 Shield

## 44248-0113
designator J?
Ganged, Right Angle, Low Profile Inverted, Snap-Fit, Unshielded, Modular Jack; Ports: 8; Positions/Loaded: All Ports - 8/8; PerformanceCategory: 5; PCB_Mounting: Thru-Hole; DrillSize: Nominal, Rounded to nearest 0.05mm; PCB_Layout: Complies with Manufacturer's Recommendation.; Published: 25-Jun-2002; DatasheetDocument: 28-Nov-2001; PackageDocument: 28-Nov-2001; PackageReference: 44248-0113; Publisher: Altium Limited; ComponentLink1Description: Manufacturer Link; ComponentLink1URL: http://www.molex.com/; ComponentLink2Description: Datasheet; ComponentLink2URL: http://www.molex.com/cmc_upload/common_files/1212003_cmx44248a.pdf
footprint 44248-0113 (Connector; PCB Jack, Thru-Hole; 8-Port, 8 Positions, 8 Loaded; Unshielded without Lightpipes; Right Angle)
signal-integrity model Modular Jack
part A pins: A1, A2, A3, A4, A5, A6, A7, A8
part B pins: B1, B2, B3, B4, B5, B6, B7, B8
part C pins: C1, C2, C3, C4, C5, C6, C7, C8
part D pins: D1, D2, D3, D4, D5, D6, D7, D8
part E pins: E1, E2, E3, E4, E5, E6, E7, E8
part F pins: F1, F2, F3, F4, F5, F6, F7, F8
part G pins: G1, G2, G3, G4, G5, G6, G7, G8
part H pins: H1, H2, H3, H4, H5, H6, H7, H8

## 44248-0114
designator J?
Ganged, Right Angle, Low Profile Inverted, Press-Fit, Unshielded, Modular Jack; Ports: 8; Positions/Loaded: All Ports - 8/8; PerformanceCategory: 5; PCB_Mounting: Thru-Hole; DrillSize: Nominal, Rounded to nearest 0.05mm; PCB_Layout: Complies with Manufacturer's Recommendation.; Published: 25-Jun-2002; DatasheetDocument: 28-Nov-2001; PackageDocument: 28-Nov-2001; PackageReference: 44248-0114; Publisher: Altium Limited; ComponentLink1Description: Manufacturer Link; ComponentLink1URL: http://www.molex.com/; ComponentLink2Description: Datasheet; ComponentLink2URL: http://www.molex.com/cmc_upload/common_files/1212003_cmx44248a.pdf
footprint 44248-0114 (Connector; PCB Jack, Thru-Hole; 8-Port, 8 Positions, 8 Loaded; Unshielded without Lightpipes; Right Angle)
signal-integrity model Modular Jack
part A pins: A1, A2, A3, A4, A5, A6, A7, A8
part B pins: B1, B2, B3, B4, B5, B6, B7, B8
part C pins: C1, C2, C3, C4, C5, C6, C7, C8
part D pins: D1, D2, D3, D4, D5, D6, D7, D8
part E pins: E1, E2, E3, E4, E5, E6, E7, E8
part F pins: F1, F2, F3, F4, F5, F6, F7, F8
part G pins: G1, G2, G3, G4, G5, G6, G7, G8
part H pins: H1, H2, H3, H4, H5, H6, H7, H8

## 44248-0115
designator J?
Ganged, Right Angle, Low Profile Inverted, Snap-Fit, Shielded, Modular Jack; Ports: 8; Positions/Loaded: All Ports - 8/8; PerformanceCategory: 5; PCB_Mounting: Thru-Hole; DrillSize: Nominal, Rounded to nearest 0.05mm; PCB_Layout: Complies with Manufacturer's Recommendation.; Published: 25-Jun-2002; DatasheetDocument: 28-Nov-2001; PackageDocument: 28-Nov-2001; PackageReference: 44248-0115; Publisher: Altium Limited; ComponentLink1Description: Manufacturer Link; ComponentLink1URL: http://www.molex.com/; ComponentLink2Description: Datasheet; ComponentLink2URL: http://www.molex.com/cmc_upload/common_files/1212003_cmx44248a.pdf
footprint 44248-0115 (Connector; PCB Jack, Thru-Hole; 8-Port, 8 Positions, 8 Loaded; Shielded without Lightpipes; Right Angle)
signal-integrity model Modular Jack
part A pins: A1, A2, A3, A4, A5, A6, A7, A8
part B pins: B1, B2, B3, B4, B5, B6, B7, B8
part C pins: C1, C2, C3, C4, C5, C6, C7, C8
part D pins: D1, D2, D3, D4, D5, D6, D7, D8
part E pins: E1, E2, E3, E4, E5, E6, E7, E8
part F pins: F1, F2, F3, F4, F5, F6, F7, F8
part G pins: G1, G2, G3, G4, G5, G6, G7, G8
part H pins: H1, H2, H3, H4, H5, H6, H7, H8, MH1 Shield, MH2 Shield, MH3 Shield, MH4 Shield, MH5 Shield, MH6 Shield, MH7 Shield, MH8 Shield

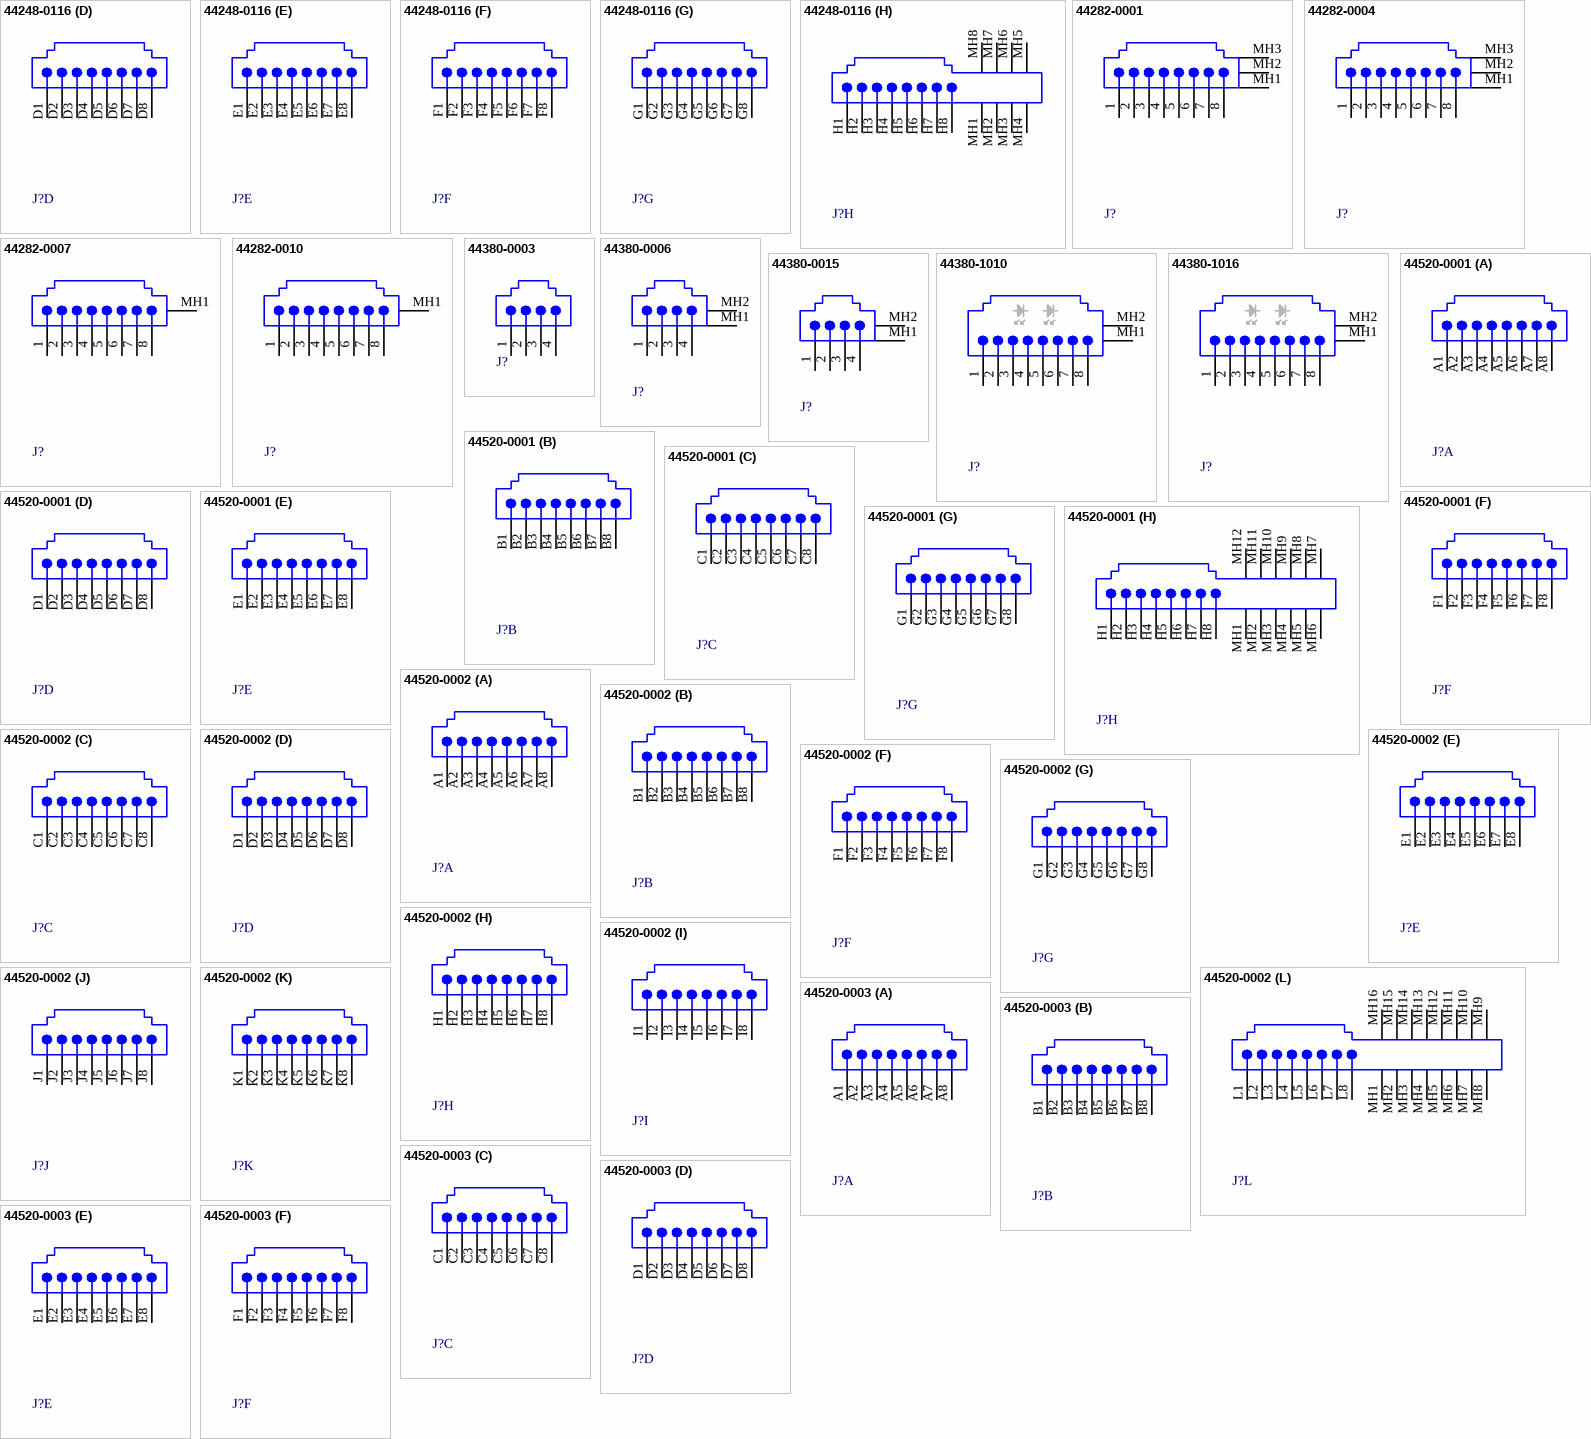
[diagram p19: symbols 44248-0116 to 44520-0003]

## 44248-0116
designator J?
Ganged, Right Angle, Low Profile Inverted, Press-Fit, Shielded, Modular Jack; Ports: 8; Positions/Loaded: All Ports - 8/8; PerformanceCategory: 5; PCB_Mounting: Thru-Hole; DrillSize: Nominal, Rounded to nearest 0.05mm; PCB_Layout: Complies with Manufacturer's Recommendation.; Published: 25-Jun-2002; DatasheetDocument: 28-Nov-2001; PackageDocument: 28-Nov-2001; PackageReference: 44248-0116; Publisher: Altium Limited; ComponentLink1Description: Manufacturer Link; ComponentLink1URL: http://www.molex.com/; ComponentLink2Description: Datasheet; ComponentLink2URL: http://www.molex.com/cmc_upload/common_files/1212003_cmx44248a.pdf
footprint 44248-0116 (Connector; PCB Jack, Thru-Hole; 8-Port, 8 Positions, 8 Loaded; Shielded without Lightpipes; Right Angle)
signal-integrity model Modular Jack
part A pins: A1, A2, A3, A4, A5, A6, A7, A8
part B pins: B1, B2, B3, B4, B5, B6, B7, B8
part C pins: C1, C2, C3, C4, C5, C6, C7, C8
part D pins: D1, D2, D3, D4, D5, D6, D7, D8
part E pins: E1, E2, E3, E4, E5, E6, E7, E8
part F pins: F1, F2, F3, F4, F5, F6, F7, F8
part G pins: G1, G2, G3, G4, G5, G6, G7, G8
part H pins: H1, H2, H3, H4, H5, H6, H7, H8, MH1 Shield, MH2 Shield, MH3 Shield, MH4 Shield, MH5 Shield, MH6 Shield, MH7 Shield, MH8 Shield

## 44282-0001
designator J?
SMT, Right Angle Low Profile Shielded Modular Jack; Ports: 1; Positions/Loaded: Port1 - 8/8; PerformanceCategory: 3; DrillSize: Nominal, Rounded to nearest 0.05mm; PCB_Layout: Complies with Manufacturer's Recommendation.; Published: 25-Jun-2002; DatasheetDocument: 19-Dec-2001; PackageDocument: 19-Dec-2001; PackageReference: 44282-0001; Publisher: Altium Limited; PCB_Mounting: SMT; ComponentLink1Description: Manufacturer Link; ComponentLink1URL: http://www.molex.com/; ComponentLink2Description: Packaging Specification; ComponentLink2URL: Product Specification|http://www.molex.com/cmc_upload/common_files/1212003_bbamf25p_ps.pdf
footprint 44282-0001 (Connector; PCB Jack, SM; 1-Port, 8 Positions, 8 Loaded; Shielded without Lightpipes; Right Angle)
signal-integrity model Modular Jack
pins: 1, 2, 3, 4, 5, 6, 7, 8, MH1 Shield, MH2 Shield, MH3 Shield

## 44282-0004
designator J?
SMT, Right Angle Low Profile Shielded Modular Jack; Ports: 1; Positions/Loaded: Port1 - 8/8; PerformanceCategory: 3; DrillSize: Nominal, Rounded to nearest 0.05mm; PCB_Layout: Complies with Manufacturer's Recommendation.; Published: 25-Jun-2002; DatasheetDocument: 19-Dec-2001; PackageDocument: 19-Dec-2001; PackageReference: 44282-0004; Publisher: Altium Limited; PCB_Mounting: SMT; ComponentLink1Description: Manufacturer Link; ComponentLink1URL: http://www.molex.com/; ComponentLink2Description: Packaging Specification; ComponentLink2URL: Product Specification|http://www.molex.com/cmc_upload/common_files/1212003_bbamf25p_ps.pdf
footprint 44282-0004 (Connector; PCB Jack, SM; 1-Port, 8 Positions, 8 Loaded; Shielded without Lightpipes; Right Angle)
signal-integrity model Modular Jack
pins: 1, 2, 3, 4, 5, 6, 7, 8, MH1 Shield, MH2 Shield, MH3 Shield

## 44282-0007
designator J?
SMT, Right Angle Low Profile Shielded Modular Jack; Ports: 1; Positions/Loaded: Port1 - 8/8; PerformanceCategory: 3; DrillSize: Nominal, Rounded to nearest 0.05mm; PCB_Layout: Complies with Manufacturer's Recommendation.; Published: 25-Jun-2002; DatasheetDocument: 19-Dec-2001; PackageDocument: 19-Dec-2001; PackageReference: 44282-0007; Publisher: Altium Limited; PCB_Mounting: SMT; ComponentLink1Description: Manufacturer Link; ComponentLink1URL: http://www.molex.com/; ComponentLink2Description: Packaging Specification; ComponentLink2URL: Product Specification|http://www.molex.com/cmc_upload/common_files/1212003_bbamf25p_ps.pdf
footprint 44282-0007 (Connector; PCB Jack, SM; 1-Port, 8 Positions, 8 Loaded; Shielded without Lightpipes; Right Angle)
signal-integrity model Modular Jack
pins: 1, 2, 3, 4, 5, 6, 7, 8, MH1 Shield

## 44282-0010
designator J?
SMT, Right Angle Low Profile Shielded Modular Jack; Ports: 1; Positions/Loaded: Port1 - 8/8; PerformanceCategory: 3; DrillSize: Nominal, Rounded to nearest 0.05mm; PCB_Layout: Complies with Manufacturer's Recommendation.; Published: 25-Jun-2002; DatasheetDocument: 19-Dec-2001; PackageDocument: 19-Dec-2001; PackageReference: 44282-0010; Publisher: Altium Limited; PCB_Mounting: SMT; ComponentLink1Description: Manufacturer Link; ComponentLink1URL: http://www.molex.com/; ComponentLink2Description: Packaging Specification; ComponentLink2URL: Product Specification|http://www.molex.com/cmc_upload/common_files/1212003_bbamf25p_ps.pdf
footprint 44282-0010 (Connector; PCB Jack, SM; 1-Port, 8 Positions, 8 Loaded; Shielded without Lightpipes; Right Angle)
signal-integrity model Modular Jack
pins: 1, 2, 3, 4, 5, 6, 7, 8, MH1 Shield

## 44380-0003
designator J?
Right Angle, Low Profile Inverted, Mini-PCI Compliant; Ports: 1; Positions/Loaded: Port1 - 6/4; PerformanceCategory: 3; PCB_Mounting: Thru-Hole; DrillSize: Nominal, Rounded to nearest 0.05mm; PCB_Layout: Complies with Manufacturer's Recommendation.; Published: 25-Jun-2002; DatasheetDocument: 17-Dec-2001; PackageDocument: 17-Dec-2001; PackageReference: 44380-0003; Publisher: Altium Limited; ComponentLink1Description: Manufacturer Link; ComponentLink1URL: http://www.molex.com/; ComponentLink2Description: Datasheet; ComponentLink2URL: http://www.molex.com/cmc_upload/common_files/1212003_cmx44380.pdf
footprint 44380-0003 (Connector; PCB Jack, Thru-Hole; 1-Port, 6 Positions, 4 Loaded; Unshielded without Lightpipes; Right Angle)
signal-integrity model Modular Jack
pins: 1, 2, 3, 4

## 44380-0006
designator J?
Right Angle, with Panel Grounding Tabs, Low Profile Inverted, Mini-PCI Compliant; Ports: 1; Positions/Loaded: Port1 - 6/4; PerformanceCategory: 3; PCB_Mounting: Thru-Hole; DrillSize: Nominal, Rounded to nearest 0.05mm; PCB_Layout: Complies with Manufacturer's Recommendation.; Published: 25-Jun-2002; DatasheetDocument: 17-Dec-2001; PackageDocument: 17-Dec-2001; PackageReference: 44380-0006; Publisher: Altium Limited; ComponentLink1Description: Manufacturer Link; ComponentLink1URL: http://www.molex.com/; ComponentLink2Description: Datasheet; ComponentLink2URL: http://www.molex.com/cmc_upload/common_files/1212003_cmx44380.pdf
footprint 44380-0006 (Connector; PCB Jack, Thru-Hole; 1-Port, 6 Positions, 4 Loaded; Shielded without Lightpipes; Right Angle)
signal-integrity model Modular Jack
pins: 1, 2, 3, 4, MH1 Shield, MH2 Shield

## 44380-0015
designator J?
Right Angle, with offset Panel Grounding Tabs, Low Profile Inverted, Mini-PCI Compliant; Ports: 1; Positions/Loaded: Port1 - 6/4; PerformanceCategory: 3; PCB_Mounting: Thru-Hole; DrillSize: Nominal, Rounded to nearest 0.05mm; PCB_Layout: Complies with Manufacturer's Recommendation.; Published: 25-Jun-2002; DatasheetDocument: 17-Dec-2001; PackageDocument: 17-Dec-2001; PackageReference: 44380-0015; Publisher: Altium Limited; ComponentLink1Description: Manufacturer Link; ComponentLink1URL: http://www.molex.com/; ComponentLink2Description: Datasheet; ComponentLink2URL: http://www.molex.com/cmc_upload/common_files/1212003_cmx44380.pdf
footprint 44380-0015 (Connector; PCB Jack, Thru-Hole; 1-Port, 6 Positions, 4 Loaded; Shielded without Lightpipes; Right Angle)
signal-integrity model Modular Jack
pins: 1, 2, 3, 4, MH1 Shield, MH2 Shield

## 44380-1010
designator J?
Right Angle, with Panel Grounding Tabs, Low Profile Inverted, Mini-PCI Compliant, with Lightpipes; ManufacturerRecommends: LED Package type 0805 or 0603; Ports: 1; Positions/Loaded: Port1 - 8/8; PerformanceCategory: 3; PCB_Mounting: Thru-Hole; PCB_Layout: Shows Position of Manufacturer's Recommended SMT LED, Package Type 0805 shown on Mechanical Layer 1.; DrillSize: Nominal, Rounded to nearest 0.05mm; PCB_Layout: Complies with Manufacturer's Recommendation.; Published: 25-Jun-2002; DatasheetDocument: 17-Dec-2001; PackageDocument: 17-Dec-2001; PackageReference: 44380-1010; Publisher: Altium Limited; ComponentLink1Description: Manufacturer Link; ComponentLink1URL: http://www.molex.com/; ComponentLink2Description: Datasheet; ComponentLink2URL: http://www.molex.com/cmc_upload/common_files/1212003_cmx44380.pdf
footprint 44380-1010 (Connector; PCB Jack, Thru-Hole; 1-Port, 8 Positions, 8 Loaded; Shielded with Lightpipes; Right Angle)
signal-integrity model Modular Jack
pins: 1, 2, 3, 4, 5, 6, 7, 8, MH1 Shield, MH2 Shield

## 44380-1016
designator J?
Right Angle, with offset Panel Grounding Tabs, Low Profile Inverted, Mini-PCI Compliant, with Lightpipes; ManufacturerRecommends: LED Package type 0805 or 0603; Ports: 1; Positions/Loaded: Port1 - 8/8; PerformanceCategory: 3; PCB_Mounting: Thru-Hole; PCB_Layout: Shows Position of Manufacturer's Recommended SMT LED, Package Type 0805 shown on Mechanical Layer 1.; DrillSize: Nominal, Rounded to nearest 0.05mm; PCB_Layout: Complies with Manufacturer's Recommendation.; Published: 25-Jun-2002; DatasheetDocument: 17-Dec-2001; PackageDocument: 17-Dec-2001; PackageReference: 44380-1016; Publisher: Altium Limited; ComponentLink1Description: Manufacturer Link; ComponentLink1URL: http://www.molex.com/; ComponentLink2Description: Datasheet; ComponentLink2URL: http://www.molex.com/cmc_upload/common_files/1212003_cmx44380.pdf
footprint 44380-1016 (Connector; PCB Jack, Thru-Hole; 1-Port, 8 Positions, 8 Loaded; Shielded with Lightpipes; Right Angle)
signal-integrity model Modular Jack
pins: 1, 2, 3, 4, 5, 6, 7, 8, MH1 Shield, MH2 Shield

## 44520-0001
designator J?
High Speed, Stacked, Multi-Port, Right Angle, Snap-Fit, Shielded, Modular Jack; Ports: 8; Positions/Loaded: All Ports - 8/8; PerformanceCategory: 5; PCB_Mounting: Thru-Hole; DrillSize: Nominal, Rounded to nearest 0.05mm; PCB_Layout: Complies with Manufacturer's Recommendation.; Published: 25-Jun-2002; DatasheetDocument: 13-Dec-2001; PackageDocument: 13-Dec-2001; PackageReference: 44520-0001; Publisher: Altium Limited; ComponentLink1Description: Manufacturer Link; ComponentLink1URL: http://www.molex.com/; ComponentLink2Description: Datasheet; ComponentLink2URL: http://www.molex.com/cmc_upload/common_files/1212003_mx44520.pdf; ComponentLink3Description: Iges Model; ComponentLink3URL: http://www.molex.com/pdm_docs/igs/44520-0001_igs.zip
footprint 44520-0001 (Connector; PCB Jack, Thru-Hole; 8-Port, 8 Positions, 8 Loaded; Shielded without Lightpipes; Right Angle)
signal-integrity model Modular Jack
part A pins: A1, A2, A3, A4, A5, A6, A7, A8
part B pins: B1, B2, B3, B4, B5, B6, B7, B8
part C pins: C1, C2, C3, C4, C5, C6, C7, C8
part D pins: D1, D2, D3, D4, D5, D6, D7, D8
part E pins: E1, E2, E3, E4, E5, E6, E7, E8
part F pins: F1, F2, F3, F4, F5, F6, F7, F8
part G pins: G1, G2, G3, G4, G5, G6, G7, G8
part H pins: H1, H2, H3, H4, H5, H6, H7, H8, MH1 Shield, MH2 Shield, MH3 Shield, MH4 Shield, MH5 Shield, MH6 Shield, MH7 Shield, MH8 Shield, MH9 Shield, MH10 Shield, MH11 Shield, MH12 Shield

## 44520-0002
designator J?
High Speed, Stacked, Multi-Port, Right Angle, Snap-Fit, Shielded, Modular Jack; Ports: 12; Positions/Loaded: All Ports - 8/8; PerformanceCategory: 5; PCB_Mounting: Thru-Hole; DrillSize: Nominal, Rounded to nearest 0.05mm; PCB_Layout: Complies with Manufacturer's Recommendation.; Published: 25-Jun-2002; DatasheetDocument: 13-Dec-2001; PackageDocument: 13-Dec-2001; PackageReference: 44520-0002; Publisher: Altium Limited; ComponentLink1Description: Manufacturer Link; ComponentLink1URL: http://www.molex.com/; ComponentLink2Description: Datasheet; ComponentLink2URL: http://www.molex.com/cmc_upload/common_files/1212003_mx44520.pdf; ComponentLink3Description: Iges Model; ComponentLink3URL: http://www.molex.com/pdm_docs/igs/44520-0001_igs.zip
footprint 44520-0002 (Connector; PCB Jack, Thru-Hole; 12-Port, 8 Positions, 8 Loaded; Shielded without Lightpipes; Right Angle)
signal-integrity model Modular Jack
part A pins: A1, A2, A3, A4, A5, A6, A7, A8
part B pins: B1, B2, B3, B4, B5, B6, B7, B8
part C pins: C1, C2, C3, C4, C5, C6, C7, C8
part D pins: D1, D2, D3, D4, D5, D6, D7, D8
part E pins: E1, E2, E3, E4, E5, E6, E7, E8
part F pins: F1, F2, F3, F4, F5, F6, F7, F8
part G pins: G1, G2, G3, G4, G5, G6, G7, G8
part H pins: H1, H2, H3, H4, H5, H6, H7, H8
part I pins: I1, I2, I3, I4, I5, I6, I7, I8
part J pins: J1, J2, J3, J4, J5, J6, J7, J8
part K pins: K1, K2, K3, K4, K5, K6, K7, K8
part L pins: L1, L2, L3, L4, L5, L6, L7, L8, MH1 Shield, MH2 Shield, MH3 Shield, MH4 Shield, MH5 Shield, MH6 Shield, MH7 Shield, MH8 Shield, MH9 Shield, MH10 Shield, MH11 Shield, MH12 Shield, MH13 Shield, MH14 Shield, MH15 Shield, MH16 Shield

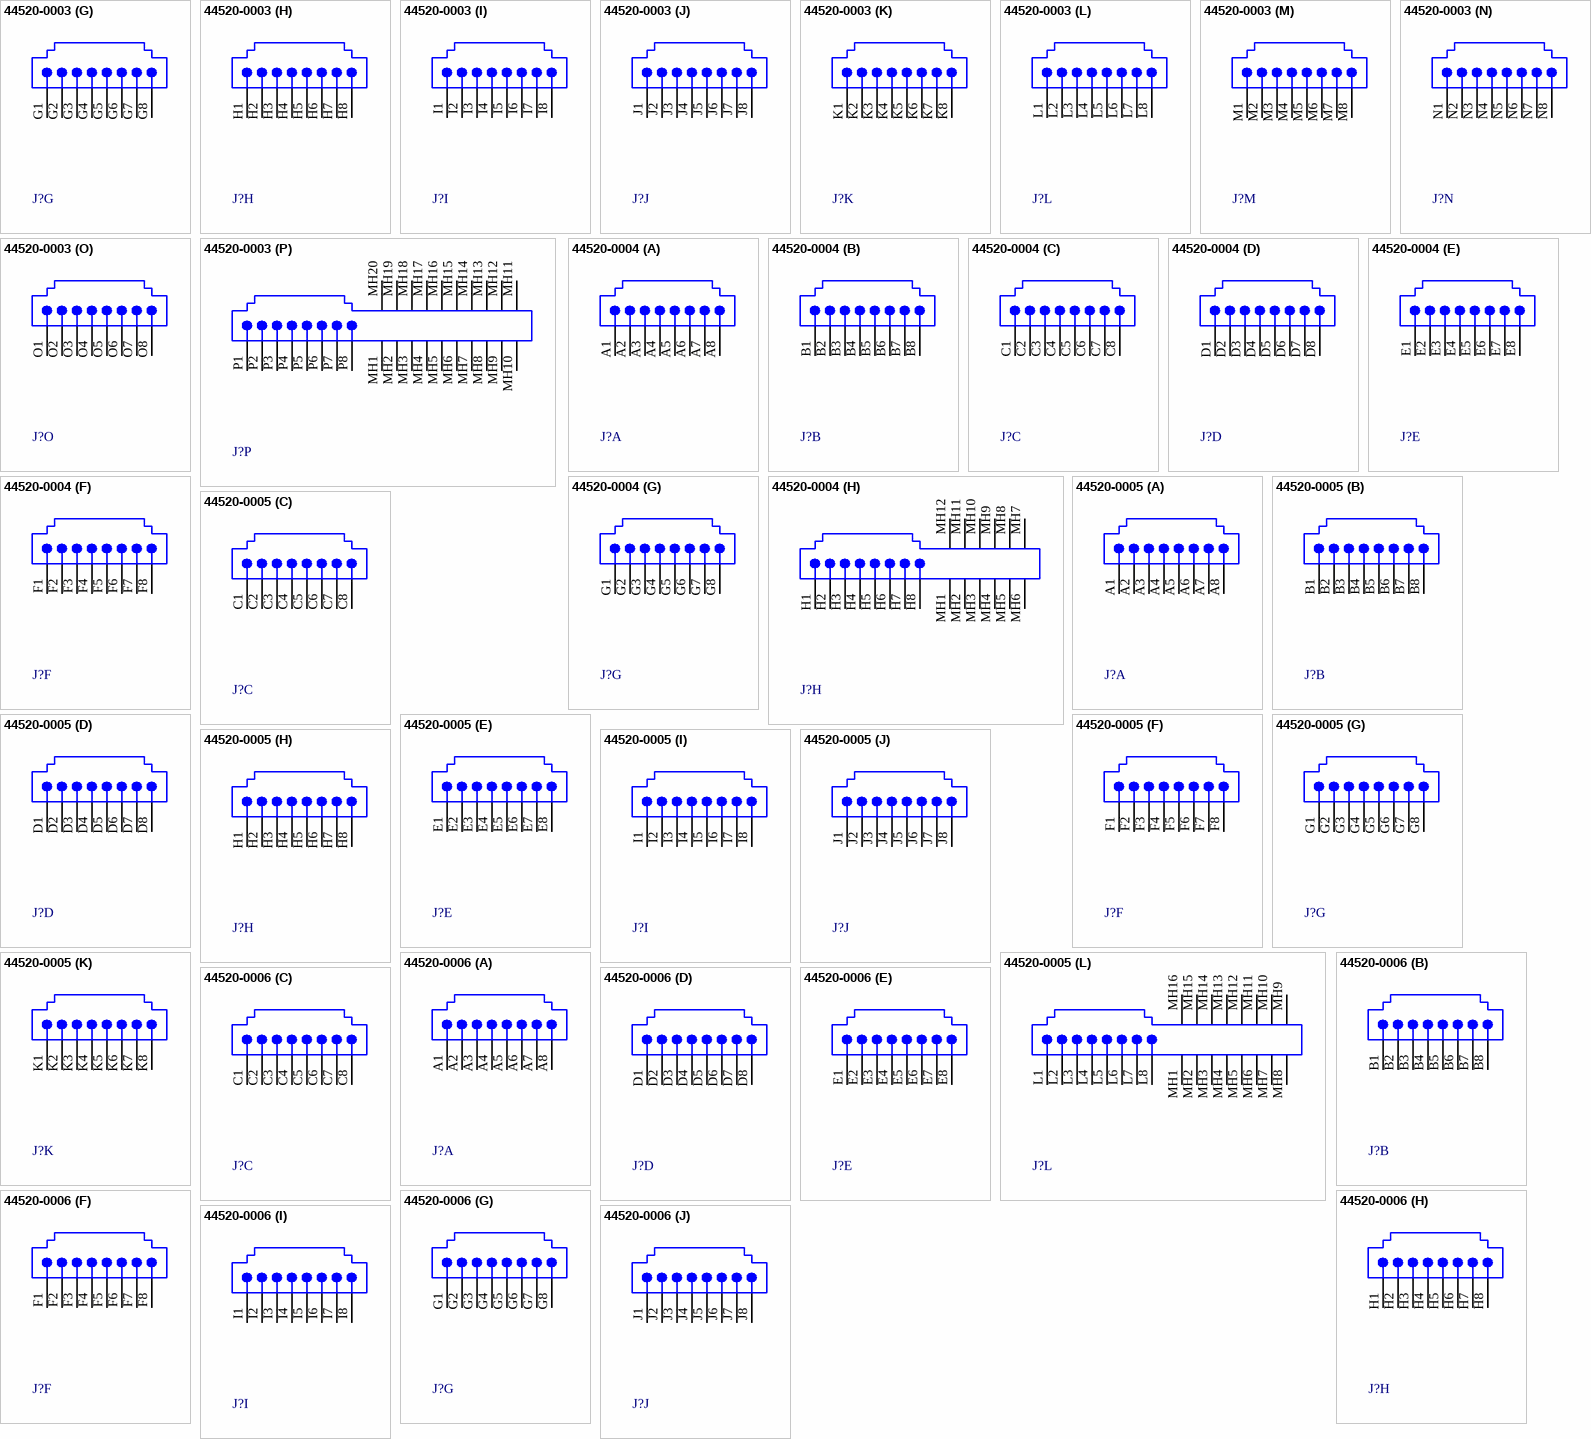
[diagram p20: symbols 44520-0003 to 44520-0006]

## 44520-0003
designator J?
High Speed, Stacked, Multi-Port, Right Angle, Snap-Fit, Shielded, Modular Jack; Ports: 16; Positions/Loaded: All Ports - 8/8; PerformanceCategory: 5; PCB_Mounting: Thru-Hole; DrillSize: Nominal, Rounded to nearest 0.05mm; PCB_Layout: Complies with Manufacturer's Recommendation.; Published: 25-Jun-2002; DatasheetDocument: 13-Dec-2001; PackageDocument: 13-Dec-2001; PackageReference: 44520-0003; Publisher: Altium Limited; ComponentLink1Description: Manufacturer Link; ComponentLink1URL: http://www.molex.com/; ComponentLink2Description: Datasheet; ComponentLink2URL: http://www.molex.com/cmc_upload/common_files/1212003_mx44520.pdf; ComponentLink3Description: Iges Model; ComponentLink3URL: http://www.molex.com/pdm_docs/igs/44520-0001_igs.zip
footprint 44520-0003 (Connector; PCB Jack, Thru-Hole; 16-Port, 8 Positions, 8 Loaded; Shielded without Lightpipes; Right Angle)
signal-integrity model Modular Jack
part A pins: A1, A2, A3, A4, A5, A6, A7, A8
part B pins: B1, B2, B3, B4, B5, B6, B7, B8
part C pins: C1, C2, C3, C4, C5, C6, C7, C8
part D pins: D1, D2, D3, D4, D5, D6, D7, D8
part E pins: E1, E2, E3, E4, E5, E6, E7, E8
part F pins: F1, F2, F3, F4, F5, F6, F7, F8
part G pins: G1, G2, G3, G4, G5, G6, G7, G8
part H pins: H1, H2, H3, H4, H5, H6, H7, H8
part I pins: I1, I2, I3, I4, I5, I6, I7, I8
part J pins: J1, J2, J3, J4, J5, J6, J7, J8
part K pins: K1, K2, K3, K4, K5, K6, K7, K8
part L pins: L1, L2, L3, L4, L5, L6, L7, L8
part M pins: M1, M2, M3, M4, M5, M6, M7, M8
part N pins: N1, N2, N3, N4, N5, N6, N7, N8
part O pins: O1, O2, O3, O4, O5, O6, O7, O8
part P pins: MH1 Shield, MH2 Shield, MH3 Shield, MH4 Shield, MH5 Shield, MH6 Shield, MH7 Shield, MH8 Shield, MH9 Shield, MH10 Shield, MH11 Shield, MH12 Shield, MH13 Shield, MH14 Shield, MH15 Shield, MH16 Shield, MH17 Shield, MH18 Shield, MH19 Shield, MH20 Shield, P1, P2, P3, P4, P5, P6, P7, P8

## 44520-0004
designator J?
High Speed, Stacked, Multi-Port, Right Angle, Press-Fit, Shielded, Modular Jack; Ports: 8; Positions/Loaded: All Ports - 8/8; PerformanceCategory: 5; PCB_Mounting: Thru-Hole; DrillSize: Nominal, Rounded to nearest 0.05mm; PCB_Layout: Complies with Manufacturer's Recommendation.; Published: 25-Jun-2002; DatasheetDocument: 13-Dec-2001; PackageDocument: 13-Dec-2001; PackageReference: 44520-0004; Publisher: Altium Limited; ComponentLink1Description: Manufacturer Link; ComponentLink1URL: http://www.molex.com/; ComponentLink2Description: Datasheet; ComponentLink2URL: http://www.molex.com/cmc_upload/common_files/1212003_mx44520.pdf; ComponentLink3Description: Iges Model; ComponentLink3URL: http://www.molex.com/pdm_docs/igs/44520-0001_igs.zip
footprint 44520-0004 (Connector; PCB Jack, Thru-Hole; 8-Port, 8 Positions, 8 Loaded; Shielded without Lightpipes; Right Angle)
signal-integrity model Modular Jack
part A pins: A1, A2, A3, A4, A5, A6, A7, A8
part B pins: B1, B2, B3, B4, B5, B6, B7, B8
part C pins: C1, C2, C3, C4, C5, C6, C7, C8
part D pins: D1, D2, D3, D4, D5, D6, D7, D8
part E pins: E1, E2, E3, E4, E5, E6, E7, E8
part F pins: F1, F2, F3, F4, F5, F6, F7, F8
part G pins: G1, G2, G3, G4, G5, G6, G7, G8
part H pins: H1, H2, H3, H4, H5, H6, H7, H8, MH1 Shield, MH2 Shield, MH3 Shield, MH4 Shield, MH5 Shield, MH6 Shield, MH7 Shield, MH8 Shield, MH9 Shield, MH10 Shield, MH11 Shield, MH12 Shield

## 44520-0005
designator J?
High Speed, Stacked, Multi-Port, Right Angle, Press-Fit, Shielded, Modular Jack; Ports: 12; Positions/Loaded: All Ports - 8/8; PerformanceCategory: 5; PCB_Mounting: Thru-Hole; DrillSize: Nominal, Rounded to nearest 0.05mm; PCB_Layout: Complies with Manufacturer's Recommendation.; Published: 25-Jun-2002; DatasheetDocument: 13-Dec-2001; PackageDocument: 13-Dec-2001; PackageReference: 44520-0005; Publisher: Altium Limited; ComponentLink1Description: Manufacturer Link; ComponentLink1URL: http://www.molex.com/; ComponentLink2Description: Datasheet; ComponentLink2URL: http://www.molex.com/cmc_upload/common_files/1212003_mx44520.pdf; ComponentLink3Description: Iges Model; ComponentLink3URL: http://www.molex.com/pdm_docs/igs/44520-0001_igs.zip
footprint 44520-0005 (Connector; PCB Jack, Thru-Hole; 12-Port, 8 Positions, 8 Loaded; Shielded without Lightpipes; Right Angle)
signal-integrity model Modular Jack
part A pins: A1, A2, A3, A4, A5, A6, A7, A8
part B pins: B1, B2, B3, B4, B5, B6, B7, B8
part C pins: C1, C2, C3, C4, C5, C6, C7, C8
part D pins: D1, D2, D3, D4, D5, D6, D7, D8
part E pins: E1, E2, E3, E4, E5, E6, E7, E8
part F pins: F1, F2, F3, F4, F5, F6, F7, F8
part G pins: G1, G2, G3, G4, G5, G6, G7, G8
part H pins: H1, H2, H3, H4, H5, H6, H7, H8
part I pins: I1, I2, I3, I4, I5, I6, I7, I8
part J pins: J1, J2, J3, J4, J5, J6, J7, J8
part K pins: K1, K2, K3, K4, K5, K6, K7, K8
part L pins: L1, L2, L3, L4, L5, L6, L7, L8, MH1 Shield, MH2 Shield, MH3 Shield, MH4 Shield, MH5 Shield, MH6 Shield, MH7 Shield, MH8 Shield, MH9 Shield, MH10 Shield, MH11 Shield, MH12 Shield, MH13 Shield, MH14 Shield, MH15 Shield, MH16 Shield

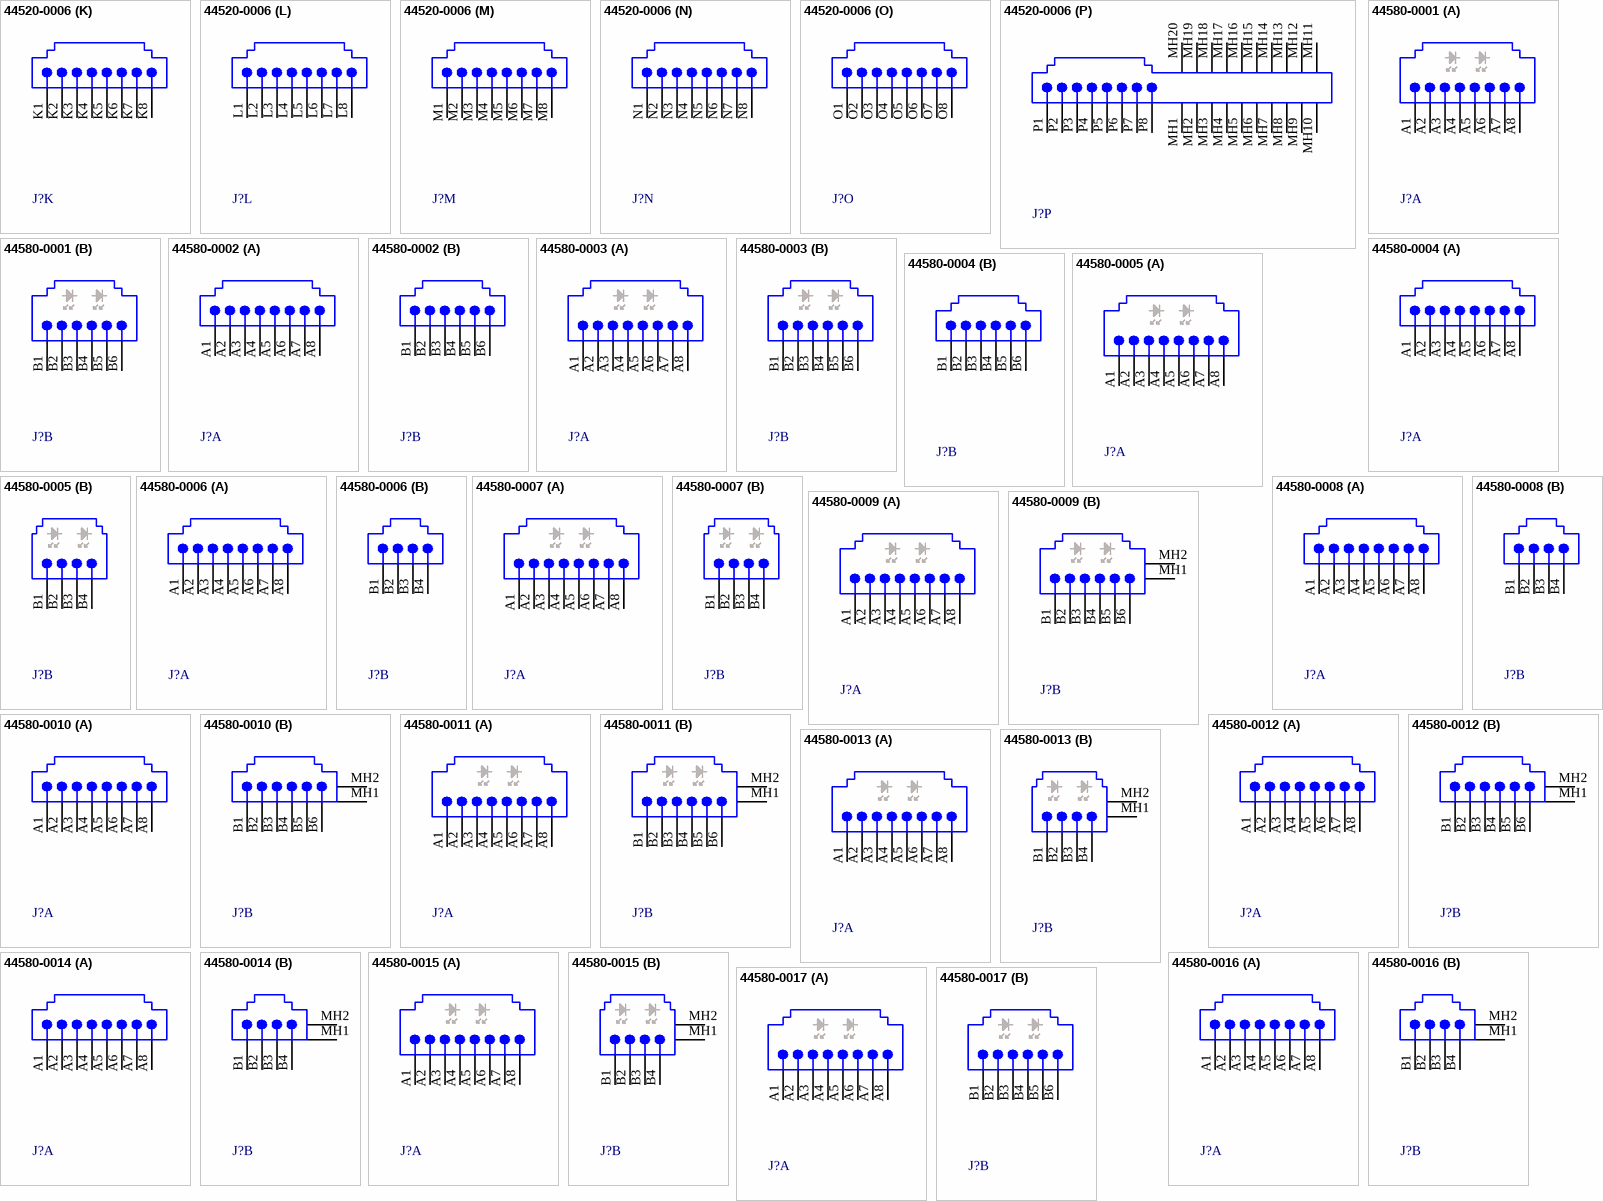
[diagram p21: symbols 44520-0006 to 44580-0017]

## 44520-0006
designator J?
High Speed, Stacked, Multi-Port, Right Angle, Press-Fit, Shielded, Modular Jack; Ports: 16; Positions/Loaded: All Ports - 8/8; PerformanceCategory: 5; PCB_Mounting: Thru-Hole; DrillSize: Nominal, Rounded to nearest 0.05mm; PCB_Layout: Complies with Manufacturer's Recommendation.; Published: 25-Jun-2002; DatasheetDocument: 13-Dec-2001; PackageDocument: 13-Dec-2001; PackageReference: 44520-0006; Publisher: Altium Limited; ComponentLink1Description: Manufacturer Link; ComponentLink1URL: http://www.molex.com/; ComponentLink2Description: Datasheet; ComponentLink2URL: http://www.molex.com/cmc_upload/common_files/1212003_mx44520.pdf; ComponentLink3Description: Iges Model; ComponentLink3URL: http://www.molex.com/pdm_docs/igs/44520-0001_igs.zip
footprint 44520-0006 (Connector; PCB Jack, Thru-Hole; 16-Port, 8 Positions, 8 Loaded; Shielded without Lightpipes; Right Angle)
signal-integrity model Modular Jack
part A pins: A1, A2, A3, A4, A5, A6, A7, A8
part B pins: B1, B2, B3, B4, B5, B6, B7, B8
part C pins: C1, C2, C3, C4, C5, C6, C7, C8
part D pins: D1, D2, D3, D4, D5, D6, D7, D8
part E pins: E1, E2, E3, E4, E5, E6, E7, E8
part F pins: F1, F2, F3, F4, F5, F6, F7, F8
part G pins: G1, G2, G3, G4, G5, G6, G7, G8
part H pins: H1, H2, H3, H4, H5, H6, H7, H8
part I pins: I1, I2, I3, I4, I5, I6, I7, I8
part J pins: J1, J2, J3, J4, J5, J6, J7, J8
part K pins: K1, K2, K3, K4, K5, K6, K7, K8
part L pins: L1, L2, L3, L4, L5, L6, L7, L8
part M pins: M1, M2, M3, M4, M5, M6, M7, M8
part N pins: N1, N2, N3, N4, N5, N6, N7, N8
part O pins: O1, O2, O3, O4, O5, O6, O7, O8
part P pins: MH1 Shield, MH2 Shield, MH3 Shield, MH4 Shield, MH5 Shield, MH6 Shield, MH7 Shield, MH8 Shield, MH9 Shield, MH10 Shield, MH11 Shield, MH12 Shield, MH13 Shield, MH14 Shield, MH15 Shield, MH16 Shield, MH17 Shield, MH18 Shield, MH19 Shield, MH20 Shield, P1, P2, P3, P4, P5, P6, P7, P8